# Altium integrated library Xilinx Virtex-II.IntLib: 158 symbols (part 5 of 59)
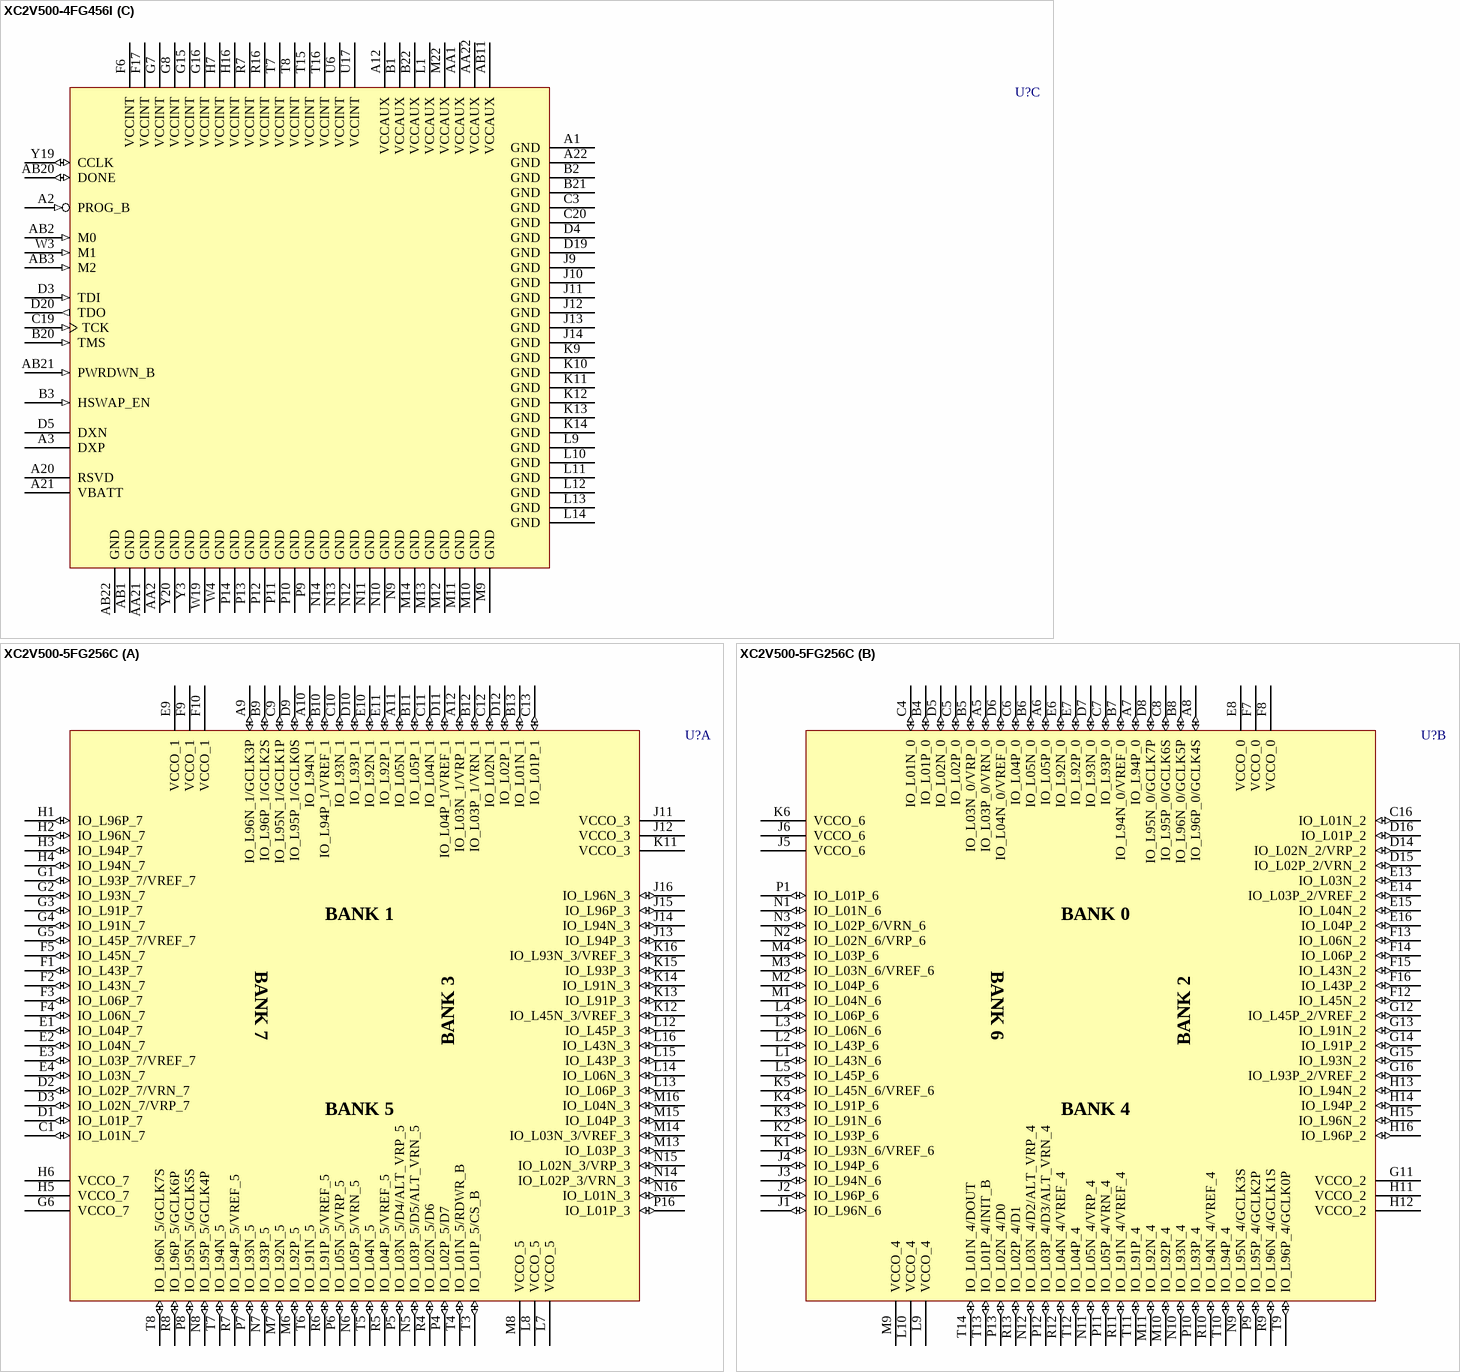
[diagram p403: symbols XC2V500-4FG456I to XC2V500-5FG256C]

## XC2V500-4FG456I
designator U?
Virtex-II 1.5V FPGA, 456-Ball FBGA, Industrial Grade; PackageDocument: ver1.1, Apr-2001; Published: 15-Apr-2002; DatasheetDocument: Mar-2004; PackageReference: FG456; Publisher: Altium Limited; Code_JEDEC: MO-151-AAJ-1
footprint FG456 (456-Ball Fine Pitch Ball Grid Array (FG456))
3D model XC2V500-FG456 (456-Ball Fine Pitch Ball Grid Array (FG456))
signal-integrity model XC2V500_FG456 (Virtex-II)
part A pins: A13 IO_L93N_1 (io), A14 IO_L54N_1 (io), A15 IO_L51N_1/VREF_1 (io), A16 NC, A17 IO_L05N_1 (io), A18 IO_L03N_1/VRP_1 (io), A19 IO_L01N_1 (io), AA3 IO_L01P_5/CS_B (io), AA4 IO_L02P_5/D7 (io), AA5 IO_L04P_5/VREF_5 (io), AA6 NC, AA7 NC, AA8 IO_L51P_5 (io), AA9 IO_L54P_5 (io), AA10 IO_L93P_5 (io), AA11 IO_L96N_5/GCLK7S (io), AA20 IO_L01P_3 (io), AB4 IO_L02N_5/D6 (io), AB5 IO_L04N_5 (io), AB6 NC, AB7 NC, AB8 IO_L51N_5/VREF_5 (io), AB9 IO_L54N_5 (io), AB10 IO_L93N_5 (io), B12 IO_L94P_1/VREF_1 (io), B13 IO_L93P_1 (io), B14 IO_L54P_1 (io), B15 IO_L51P_1 (io), B16 NC, B17 IO_L05P_1 (io), B18 IO_L03P_1/VRN_1 (io), B19 IO_L01P_1 (io), C1 IO_L02P_7/VRN_7 (io), C2 IO_L02N_7/VRP_7 (io), C12 IO_L94N_1 (io), C13 IO_L92N_1 (io), C14 IO_L52N_1 (io), C15 IO_L49N_1 (io), C16 NC, C17 IO_L04N_1 (io), C18 IO_L02N_1 (io), D1 IO_L03P_7/VREF_7 (io), D2 IO_L03N_7 (io), D12 IO_L95P_1/GCLK0S (io), D13 IO_L92P_1 (io), D14 IO_L52P_1 (io), D15 IO_L49P_1 (io), D16 NC, D17 IO_L04P_1/VREF_1 (io), D18 IO_L02P_1 (io), E1 IO_L06P_7 (io), E2 IO_L06N_7 (io), E3 IO_L04P_7 (io), E4 IO_L04N_7 (io), E5 IO_L01P_7 (io), E6 IO_L01N_7 (io), E12 IO_L95N_1/GCLK1P (io), E13 IO_L91N_1 (io), E14 IO_L91P_1/VREF_1 (io), E15 NC, E16 IO_L06N_1 (io), E17 IO_L06P_1 (io), F1 NC, F2 NC, F3 NC, F4 NC, F5 NC, F12 IO_L96N_1/GCLK3P (io), F13 IO_L96P_1/GCLK2S (io), F14 NC, F15 VCCO_1 (power), F16 VCCO_1 (power), G1 IO_L43P_7 (io), G2 IO_L43N_7 (io), G3 NC, G4 NC, G5 NC, G6 VCCO_7 (power), G12 VCCO_1 (power), G13 VCCO_1 (power), G14 VCCO_1 (power), H1 IO_L48P_7 (io), H2 IO_L48N_7 (io), H3 IO_L46P_7 (io), H4 IO_L46N_7 (io), H5 IO_L45N_7 (io), H6 VCCO_7 (power), J1 IO_L51P_7/VREF_7 (io), J2 IO_L51N_7 (io), J3 IO_L49P_7 (io), J4 IO_L49N_7 (io), J5 IO_L52N_7 (io), J6 IO_L45P_7/VREF_7 (io), J7 VCCO_7 (power), K1 IO_L93P_7/VREF_7 (io), K2 IO_L93N_7 (io), K3 IO_L91P_7 (io), K4 IO_L91N_7 (io), K5 IO_L52P_7 (io), K6 IO_L54N_7 (io), K7 VCCO_7 (power), L2 IO_L96P_7 (io), L3 IO_L96N_7 (io), L4 IO_L94P_7 (io), L5 IO_L94N_7 (io), L6 IO_L54P_7 (io), L7 VCCO_7 (power), M16 VCCO_3 (power), M17 IO_L93N_3/VREF_3 (io), M18 IO_L94P_3 (io), M19 IO_L94N_3 (io), M20 IO_L96P_3 (io), M21 IO_L96N_3 (io), N16 VCCO_3 (power), N17 IO_L93P_3 (io), N18 IO_L52N_3 (io), N19 IO_L54P_3 (io), N20 IO_L54N_3 (io), N21 IO_L91P_3 (io), N22 IO_L91N_3 (io), P16 VCCO_3 (power), P17 IO_L45P_3 (io), P18 IO_L52P_3 (io), P19 IO_L49P_3 (io), P20 IO_L49N_3 (io), P21 IO_L51P_3 (io), P22 IO_L51N_3/VREF_3 (io), R17 VCCO_3 (power), R18 IO_L45N_3/VREF_3 (io), R19 IO_L46P_3 (io), R20 IO_L46N_3 (io), R21 IO_L48P_3 (io), R22 IO_L48N_3 (io), T9 VCCO_5 (power), T10 VCCO_5 (power), T11 VCCO_5 (power), T17 VCCO_3 (power), T18 NC, T19 NC, T20 NC, T21 IO_L43P_3 (io), T22 IO_L43N_3 (io), U7 VCCO_5 (power), U8 VCCO_5 (power), U9 NC, U10 IO_L94P_5/VREF_5 (io), U11 IO_L94N_5 (io), U18 NC, U19 NC, U20 NC, U21 NC, U22 NC, V6 IO_L05P_5/VRN_5 (io), V7 IO_L05N_5/VRP_5 (io), V8 NC, V9 IO_L91P_5/VREF_5 (io), V10 IO_L91N_5 (io), V11 IO_L95P_5/GCLK4P (io), V19 IO_L04P_3 (io), V20 IO_L04N_3 (io), V21 IO_L06P_3 (io), V22 IO_L06N_3 (io), W5 IO_L03P_5/D5/ALT_VRN_5 (io), W6 IO_L06P_5 (io), W7 NC, W8 IO_L49P_5 (io), W9 IO_L52P_5 (io), W10 IO_L92P_5 (io), W11 IO_L95N_5/GCLK5S (io), W20 IO_L01N_3 (io), W21 IO_L03P_3 (io), W22 IO_L03N_3/VREF_3 (io), Y4 IO_L01N_5/RDWR_B (io), Y5 IO_L03N_5/D4/ALT_VRP_5 (io), Y6 IO_L06N_5 (io), Y7 NC, Y8 IO_L49N_5 (io), Y9 IO_L52N_5 (io), Y10 IO_L92N_5 (io), Y11 IO_L96P_5/GCLK6P (io), Y21 IO_L02P_3/VRN_3 (io), Y22 IO_L02N_3/VRP_3 (io)
part B pins: A4 IO_L01P_0 (io), A5 IO_L03P_0/VRN_0 (io), A6 IO_L05P_0 (io), A7 NC, A8 IO_L49P_0 (io), A9 IO_L54P_0 (io), A10 IO_L93P_0 (io), A11 IO_L96P_0/GCLK4S (io), AA12 IO_L96N_4/GCLK1S (io), AA13 IO_L93N_4 (io), AA14 IO_L54N_4 (io), AA15 IO_L49N_4 (io), AA16 NC, AA17 IO_L06N_4 (io), AA18 IO_L04N_4/VREF_4 (io), AA19 IO_L01P_4/INIT_B (io), AB12 IO_L96P_4/GCLK0P (io), AB13 IO_L93P_4 (io), AB14 IO_L54P_4 (io), AB15 IO_L49P_4 (io), AB16 NC, AB17 IO_L06P_4 (io), AB18 IO_L04P_4 (io), AB19 IO_L01N_4/DOUT (io), B4 IO_L01N_0 (io), B5 IO_L03N_0/VRP_0 (io), B6 IO_L05N_0 (io), B7 NC, B8 IO_L49N_0 (io), B9 IO_L54N_0 (io), B10 IO_L93N_0 (io), B11 IO_L96N_0/GCLK5P (io), C4 IO_L02N_0 (io), C5 IO_L02P_0 (io), C6 IO_L04P_0 (io), C7 NC, C8 NC, C9 IO_L52P_0 (io), C10 IO_L92P_0 (io), C11 IO_L95P_0/GCLK6S (io), C21 IO_L01N_2 (io), C22 IO_L01P_2 (io), D6 IO_L04N_0/VREF_0 (io), D7 NC, D8 NC, D9 IO_L52N_0 (io), D10 IO_L92N_0 (io), D11 IO_L95N_0/GCLK7P (io), D21 IO_L03N_2 (io), D22 IO_L03P_2/VREF_2 (io), E7 IO_L06N_0 (io), E8 IO_L06P_0 (io), E9 IO_L51N_0 (io), E10 IO_L91N_0/VREF_0 (io), E11 IO_L94N_0/VREF_0 (io), E18 IO_L02N_2/VRP_2 (io), E19 IO_L04N_2 (io), E20 IO_L04P_2 (io), E21 IO_L06N_2 (io), E22 IO_L06P_2 (io), F7 VCCO_0 (power), F8 VCCO_0 (power), F9 IO_L51P_0/VREF_0 (io), F10 IO_L91P_0 (io), F11 IO_L94P_0 (io), F18 IO_L02P_2/VRN_2 (io), F19 NC, F20 NC, F21 NC, F22 NC, G9 VCCO_0 (power), G10 VCCO_0 (power), G11 VCCO_0 (power), G17 VCCO_2 (power), G18 NC, G19 NC, G20 NC, G21 IO_L43N_2 (io), G22 IO_L43P_2 (io), H17 VCCO_2 (power), H18 NC, H19 IO_L45N_2 (io), H20 IO_L45P_2/VREF_2 (io), H21 IO_L46N_2 (io), H22 IO_L46P_2 (io), J16 VCCO_2 (power), J17 IO_L48N_2 (io), J18 IO_L48P_2 (io), J19 IO_L49N_2 (io), J20 IO_L49P_2 (io), J21 IO_L51N_2 (io), J22 IO_L51P_2/VREF_2 (io), K16 VCCO_2 (power), K17 IO_L52N_2 (io), K18 IO_L52P_2 (io), K19 IO_L54N_2 (io), K20 IO_L54P_2 (io), K21 IO_L91N_2 (io), K22 IO_L91P_2 (io), L16 VCCO_2 (power), L17 IO_L93N_2 (io), L18 IO_L93P_2/VREF_2 (io), L19 IO_L94N_2 (io), L20 IO_L94P_2 (io), L21 IO_L96N_2 (io), L22 IO_L96P_2 (io), M1 IO_L96N_6 (io), M2 IO_L96P_6 (io), M3 IO_L94N_6 (io), M4 IO_L94P_6 (io), M5 IO_L93N_6/VREF_6 (io), M6 IO_L93P_6 (io), M7 VCCO_6 (power), N1 IO_L91N_6 (io), N2 IO_L91P_6 (io), N3 IO_L54N_6 (io), N4 IO_L54P_6 (io), N5 IO_L52N_6 (io), N6 IO_L52P_6 (io), N7 VCCO_6 (power), P1 IO_L51N_6/VREF_6 (io), P2 IO_L51P_6 (io), P3 IO_L49N_6 (io), P4 IO_L49P_6 (io), P5 IO_L48N_6 (io), P6 IO_L48P_6 (io), P7 VCCO_6 (power), R1 IO_L46N_6 (io), R2 IO_L46P_6 (io), R3 IO_L45N_6/VREF_6 (io), R4 IO_L45P_6 (io), R5 NC, R6 VCCO_6 (power), T1 IO_L43N_6 (io), T2 IO_L43P_6 (io), T3 NC, T4 NC, T5 NC, T6 VCCO_6 (power), T12 VCCO_4 (power), T13 VCCO_4 (power), T14 VCCO_4 (power), U1 NC, U2 NC, U3 IO_L06N_6 (io), U4 IO_L06P_6 (io), U5 IO_L01N_6 (io), U12 IO_L94N_4/VREF_4 (io), U13 IO_L91N_4/VREF_4 (io), U14 IO_L51N_4 (io), U15 VCCO_4 (power), U16 VCCO_4 (power), V1 NC, V2 NC, V3 IO_L03N_6/VREF_6 (io), V4 IO_L03P_6 (io), V5 IO_L01P_6 (io), V12 IO_L94P_4 (io), V13 IO_L91P_4 (io), V14 IO_L51P_4/VREF_4 (io), V15 NC, V16 NC, V17 IO_L02P_4/D1 (io), V18 IO_L02N_4/D0 (io), W1 IO_L04N_6 (io), W2 IO_L04P_6 (io), W12 IO_L95N_4/GCLK3S (io), W13 IO_L92N_4 (io), W14 IO_L52N_4 (io), W15 NC, W16 NC, W17 IO_L05N_4/VRP_4 (io), W18 IO_L03N_4/D2/ALT_VRP_4 (io), Y1 IO_L02N_6/VRP_6 (io), Y2 IO_L02P_6/VRN_6 (io), Y12 IO_L95P_4/GCLK2P (io), Y13 IO_L92P_4 (io), Y14 IO_L52P_4 (io), Y15 NC, Y16 NC, Y17 IO_L05P_4/VRN_4 (io), Y18 IO_L03P_4/D3/ALT_VRN_4 (io)
part C pins: A1 GND (power), A2 PROG_B (in), A3 DXP, A12 VCCAUX (power), A20 RSVD, A21 VBATT (power), A22 GND (power), AA1 VCCAUX (power), AA2 GND (power), AA21 GND (power), AA22 VCCAUX (power), AB1 GND (power), AB2 M0 (in), AB3 M2 (in), AB11 VCCAUX (power), AB20 DONE (io), AB21 PWRDWN_B (in), AB22 GND (power), B1 VCCAUX (power), B2 GND (power), B3 HSWAP_EN (in), B20 TMS (in), B21 GND (power), B22 VCCAUX (power), C3 GND (power), C19 TCK (in), C20 GND (power), D3 TDI (in), D4 GND (power), D5 DXN, D19 GND (power), D20 TDO (out), F6 VCCINT (power), F17 VCCINT (power), G7 VCCINT (power), G8 VCCINT (power), G15 VCCINT (power), G16 VCCINT (power), H7 VCCINT (power), H16 VCCINT (power), J9 GND (power), J10 GND (power), J11 GND (power), J12 GND (power), J13 GND (power), J14 GND (power), K9 GND (power), K10 GND (power), K11 GND (power), K12 GND (power), K13 GND (power), K14 GND (power), L1 VCCAUX (power), L9 GND (power), L10 GND (power), L11 GND (power), L12 GND (power), L13 GND (power), L14 GND (power), M9 GND (power), M10 GND (power), M11 GND (power), M12 GND (power), M13 GND (power), M14 GND (power), M22 VCCAUX (power), N9 GND (power), N10 GND (power), N11 GND (power), N12 GND (power), N13 GND (power), N14 GND (power), P9 GND (power), P10 GND (power), P11 GND (power), P12 GND (power), P13 GND (power), P14 GND (power), R7 VCCINT (power), R16 VCCINT (power), T7 VCCINT (power), T8 VCCINT (power), T15 VCCINT (power), T16 VCCINT (power), U6 VCCINT (power), U17 VCCINT (power), W3 M1 (in), W4 GND (power), W19 GND (power), Y3 GND (power), Y19 CCLK (io), Y20 GND (power)
part A text: BANK 1; BANK 7; BANK 3; BANK 5
part B text: BANK 0; BANK 6; BANK 2; BANK 4

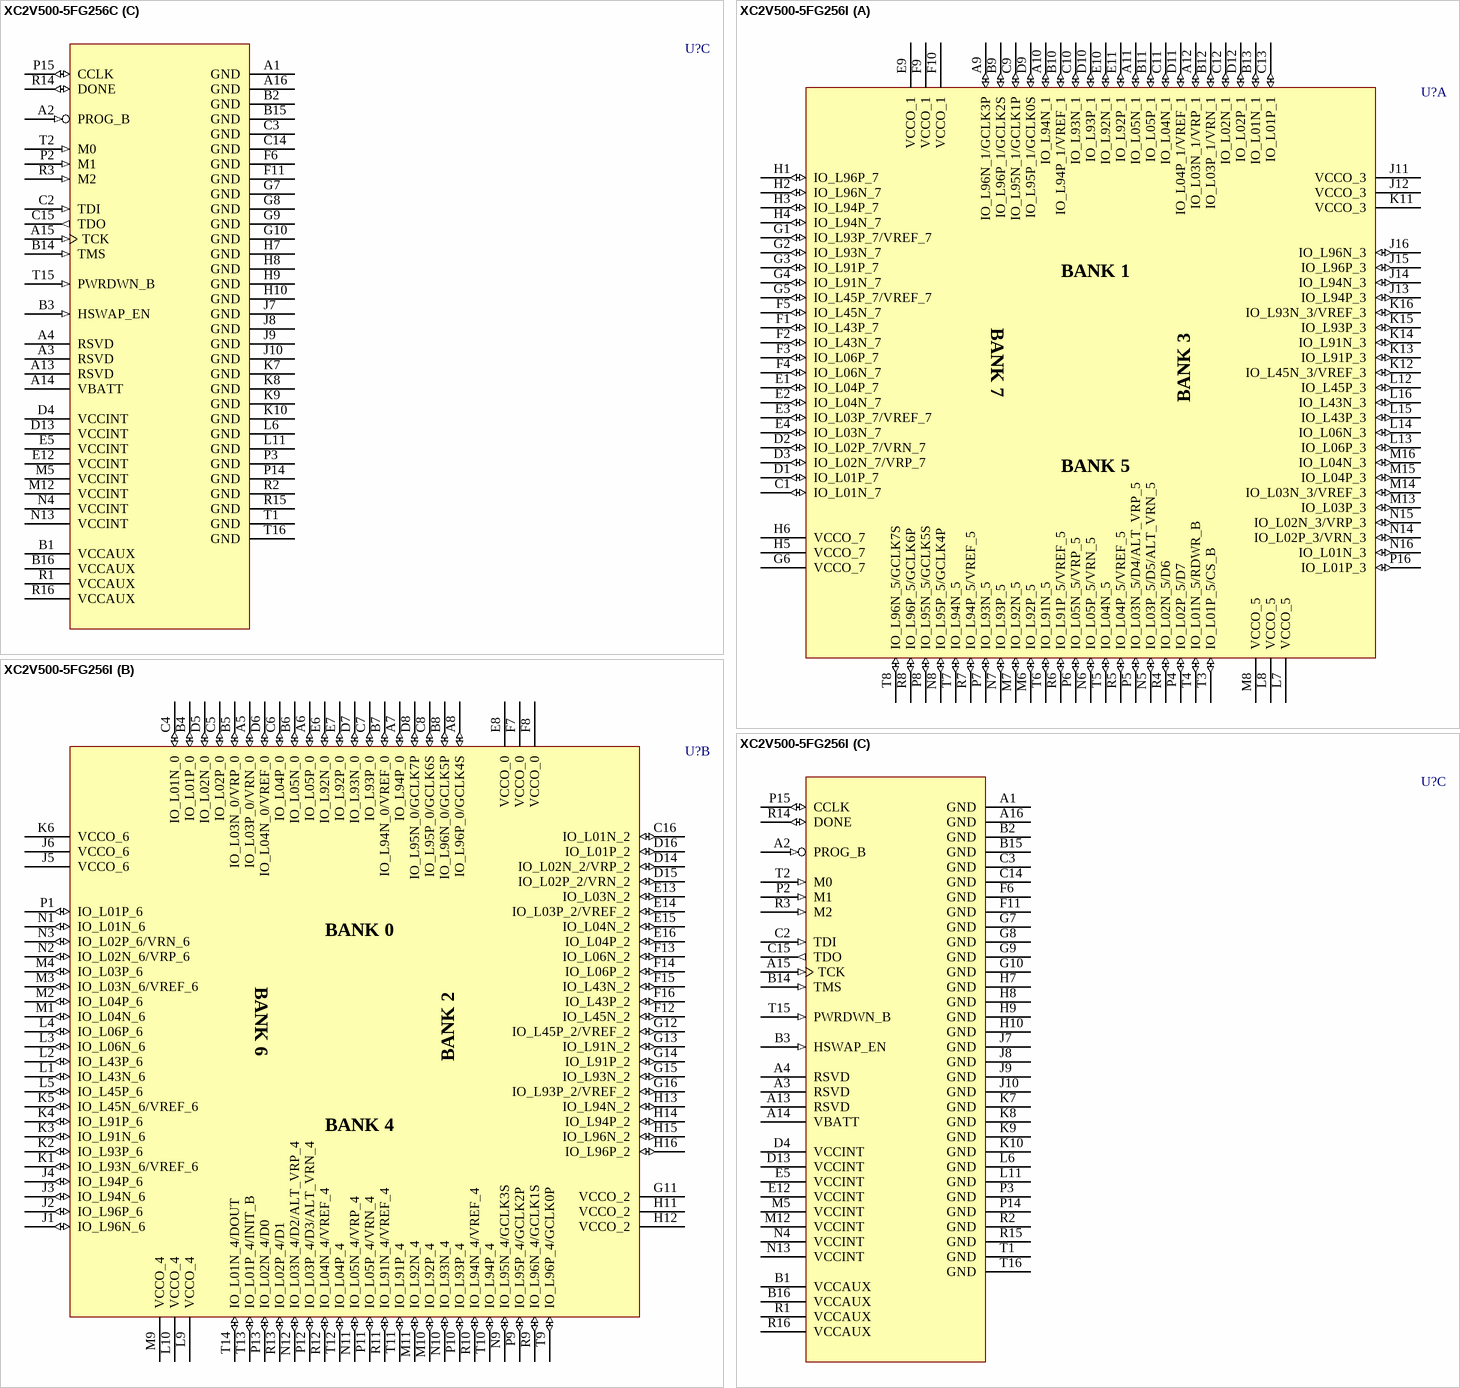
[diagram p41: symbols XC2V500-5FG256C to XC2V500-5FG256I]

## XC2V500-5FG256C
designator U?
Virtex-II 1.5V FPGA, 256-Ball FBGA, Commercial Grade; PackageDocument: ver1.1, Apr-2001; Published: 15-Apr-2002; DatasheetDocument: Mar-2004; PackageReference: FG256; Publisher: Altium Limited; Code_JEDEC: MO-151-AAF-1; Code_IPC: PBGA 17X17 FE256
footprint FG256 (256-Ball Fine Pitch Ball Grid Array (FG256))
3D model XC2V500-FG256 (256-Ball Fine Pitch Ball Grid Array (FG256))
signal-integrity model XC2V500_FG256 (Virtex-II)
part A pins: A9 IO_L96N_1/GCLK3P (io), A10 IO_L94N_1 (io), A11 IO_L05N_1 (io), A12 IO_L03N_1/VRP_1 (io), B9 IO_L96P_1/GCLK2S (io), B10 IO_L94P_1/VREF_1 (io), B11 IO_L05P_1 (io), B12 IO_L03P_1/VRN_1 (io), B13 IO_L01N_1 (io), C1 IO_L01N_7 (io), C9 IO_L95N_1/GCLK1P (io), C10 IO_L93N_1 (io), C11 IO_L04N_1 (io), C12 IO_L02N_1 (io), C13 IO_L01P_1 (io), D1 IO_L01P_7 (io), D2 IO_L02P_7/VRN_7 (io), D3 IO_L02N_7/VRP_7 (io), D9 IO_L95P_1/GCLK0S (io), D10 IO_L93P_1 (io), D11 IO_L04P_1/VREF_1 (io), D12 IO_L02P_1 (io), E1 IO_L04P_7 (io), E2 IO_L04N_7 (io), E3 IO_L03P_7/VREF_7 (io), E4 IO_L03N_7 (io), E9 VCCO_1 (power), E10 IO_L92N_1 (io), E11 IO_L92P_1 (io), F1 IO_L43P_7 (io), F2 IO_L43N_7 (io), F3 IO_L06P_7 (io), F4 IO_L06N_7 (io), F5 IO_L45N_7 (io), F9 VCCO_1 (power), F10 VCCO_1 (power), G1 IO_L93P_7/VREF_7 (io), G2 IO_L93N_7 (io), G3 IO_L91P_7 (io), G4 IO_L91N_7 (io), G5 IO_L45P_7/VREF_7 (io), G6 VCCO_7 (power), H1 IO_L96P_7 (io), H2 IO_L96N_7 (io), H3 IO_L94P_7 (io), H4 IO_L94N_7 (io), H5 VCCO_7 (power), H6 VCCO_7 (power), J11 VCCO_3 (power), J12 VCCO_3 (power), J13 IO_L94P_3 (io), J14 IO_L94N_3 (io), J15 IO_L96P_3 (io), J16 IO_L96N_3 (io), K11 VCCO_3 (power), K12 IO_L45N_3/VREF_3 (io), K13 IO_L91P_3 (io), K14 IO_L91N_3 (io), K15 IO_L93P_3 (io), K16 IO_L93N_3/VREF_3 (io), L7 VCCO_5 (power), L8 VCCO_5 (power), L12 IO_L45P_3 (io), L13 IO_L06P_3 (io), L14 IO_L06N_3 (io), L15 IO_L43P_3 (io), L16 IO_L43N_3 (io), M6 IO_L92P_5 (io), M7 IO_L92N_5 (io), M8 VCCO_5 (power), M13 IO_L03P_3 (io), M14 IO_L03N_3/VREF_3 (io), M15 IO_L04P_3 (io), M16 IO_L04N_3 (io), N5 IO_L03P_5/D5/ALT_VRN_5 (io), N6 IO_L05P_5/VRN_5 (io), N7 IO_L93P_5 (io), N8 IO_L95P_5/GCLK4P (io), N14 IO_L02P_3/VRN_3 (io), N15 IO_L02N_3/VRP_3 (io), N16 IO_L01N_3 (io), P4 IO_L02P_5/D7 (io), P5 IO_L03N_5/D4/ALT_VRP_5 (io), P6 IO_L05N_5/VRP_5 (io), P7 IO_L93N_5 (io), P8 IO_L95N_5/GCLK5S (io), P16 IO_L01P_3 (io), R4 IO_L02N_5/D6 (io), R5 IO_L04P_5/VREF_5 (io), R6 IO_L91P_5/VREF_5 (io), R7 IO_L94P_5/VREF_5 (io), R8 IO_L96P_5/GCLK6P (io), T3 IO_L01P_5/CS_B (io), T4 IO_L01N_5/RDWR_B (io), T5 IO_L04N_5 (io), T6 IO_L91N_5 (io), T7 IO_L94N_5 (io), T8 IO_L96N_5/GCLK7S (io)
part B pins: A5 IO_L03P_0/VRN_0 (io), A6 IO_L05P_0 (io), A7 IO_L94P_0 (io), A8 IO_L96P_0/GCLK4S (io), B4 IO_L01P_0 (io), B5 IO_L03N_0/VRP_0 (io), B6 IO_L05N_0 (io), B7 IO_L94N_0/VREF_0 (io), B8 IO_L96N_0/GCLK5P (io), C4 IO_L01N_0 (io), C5 IO_L02P_0 (io), C6 IO_L04P_0 (io), C7 IO_L93P_0 (io), C8 IO_L95P_0/GCLK6S (io), C16 IO_L01N_2 (io), D5 IO_L02N_0 (io), D6 IO_L04N_0/VREF_0 (io), D7 IO_L93N_0 (io), D8 IO_L95N_0/GCLK7P (io), D14 IO_L02N_2/VRP_2 (io), D15 IO_L02P_2/VRN_2 (io), D16 IO_L01P_2 (io), E6 IO_L92N_0 (io), E7 IO_L92P_0 (io), E8 VCCO_0 (power), E13 IO_L03N_2 (io), E14 IO_L03P_2/VREF_2 (io), E15 IO_L04N_2 (io), E16 IO_L04P_2 (io), F7 VCCO_0 (power), F8 VCCO_0 (power), F12 IO_L45N_2 (io), F13 IO_L06N_2 (io), F14 IO_L06P_2 (io), F15 IO_L43N_2 (io), F16 IO_L43P_2 (io), G11 VCCO_2 (power), G12 IO_L45P_2/VREF_2 (io), G13 IO_L91N_2 (io), G14 IO_L91P_2 (io), G15 IO_L93N_2 (io), G16 IO_L93P_2/VREF_2 (io), H11 VCCO_2 (power), H12 VCCO_2 (power), H13 IO_L94N_2 (io), H14 IO_L94P_2 (io), H15 IO_L96N_2 (io), H16 IO_L96P_2 (io), J1 IO_L96N_6 (io), J2 IO_L96P_6 (io), J3 IO_L94N_6 (io), J4 IO_L94P_6 (io), J5 VCCO_6 (power), J6 VCCO_6 (power), K1 IO_L93N_6/VREF_6 (io), K2 IO_L93P_6 (io), K3 IO_L91N_6 (io), K4 IO_L91P_6 (io), K5 IO_L45N_6/VREF_6 (io), K6 VCCO_6 (power), L1 IO_L43N_6 (io), L2 IO_L43P_6 (io), L3 IO_L06N_6 (io), L4 IO_L06P_6 (io), L5 IO_L45P_6 (io), L9 VCCO_4 (power), L10 VCCO_4 (power), M1 IO_L04N_6 (io), M2 IO_L04P_6 (io), M3 IO_L03N_6/VREF_6 (io), M4 IO_L03P_6 (io), M9 VCCO_4 (power), M10 IO_L92P_4 (io), M11 IO_L92N_4 (io), N1 IO_L01N_6 (io), N2 IO_L02N_6/VRP_6 (io), N3 IO_L02P_6/VRN_6 (io), N9 IO_L95N_4/GCLK3S (io), N10 IO_L93N_4 (io), N11 IO_L05N_4/VRP_4 (io), N12 IO_L03N_4/D2/ALT_VRP_4 (io), P1 IO_L01P_6 (io), P9 IO_L95P_4/GCLK2P (io), P10 IO_L93P_4 (io), P11 IO_L05P_4/VRN_4 (io), P12 IO_L03P_4/D3/ALT_VRN_4 (io), P13 IO_L02N_4/D0 (io), R9 IO_L96N_4/GCLK1S (io), R10 IO_L94N_4/VREF_4 (io), R11 IO_L91N_4/VREF_4 (io), R12 IO_L04N_4/VREF_4 (io), R13 IO_L02P_4/D1 (io), T9 IO_L96P_4/GCLK0P (io), T10 IO_L94P_4 (io), T11 IO_L91P_4 (io), T12 IO_L04P_4 (io), T13 IO_L01P_4/INIT_B (io), T14 IO_L01N_4/DOUT (io)
part C pins: A1 GND (power), A2 PROG_B (in), A3 RSVD, A4 RSVD, A13 RSVD, A14 VBATT (power), A15 TCK (in), A16 GND (power), B1 VCCAUX (power), B2 GND (power), B3 HSWAP_EN (in), B14 TMS (in), B15 GND (power), B16 VCCAUX (power), C2 TDI (in), C3 GND (power), C14 GND (power), C15 TDO (out), D4 VCCINT (power), D13 VCCINT (power), E5 VCCINT (power), E12 VCCINT (power), F6 GND (power), F11 GND (power), G7 GND (power), G8 GND (power), G9 GND (power), G10 GND (power), H7 GND (power), H8 GND (power), H9 GND (power), H10 GND (power), J7 GND (power), J8 GND (power), J9 GND (power), J10 GND (power), K7 GND (power), K8 GND (power), K9 GND (power), K10 GND (power), L6 GND (power), L11 GND (power), M5 VCCINT (power), M12 VCCINT (power), N4 VCCINT (power), N13 VCCINT (power), P2 M1 (in), P3 GND (power), P14 GND (power), P15 CCLK (io), R1 VCCAUX (power), R2 GND (power), R3 M2 (in), R14 DONE (io), R15 GND (power), R16 VCCAUX (power), T1 GND (power), T2 M0 (in), T15 PWRDWN_B (in), T16 GND (power)
part A text: BANK 1; BANK 7; BANK 3; BANK 5
part B text: BANK 0; BANK 6; BANK 2; BANK 4

## XC2V500-5FG256I
designator U?
Virtex-II 1.5V FPGA, 256-Ball FBGA, Industrial Grade; PackageDocument: ver1.1, Apr-2001; Published: 15-Apr-2002; DatasheetDocument: Mar-2004; PackageReference: FG256; Publisher: Altium Limited; Code_JEDEC: MO-151-AAF-1; Code_IPC: PBGA 17X17 FE256
footprint FG256 (256-Ball Fine Pitch Ball Grid Array (FG256))
3D model XC2V500-FG256 (256-Ball Fine Pitch Ball Grid Array (FG256))
signal-integrity model XC2V500_FG256 (Virtex-II)
part A pins: A9 IO_L96N_1/GCLK3P (io), A10 IO_L94N_1 (io), A11 IO_L05N_1 (io), A12 IO_L03N_1/VRP_1 (io), B9 IO_L96P_1/GCLK2S (io), B10 IO_L94P_1/VREF_1 (io), B11 IO_L05P_1 (io), B12 IO_L03P_1/VRN_1 (io), B13 IO_L01N_1 (io), C1 IO_L01N_7 (io), C9 IO_L95N_1/GCLK1P (io), C10 IO_L93N_1 (io), C11 IO_L04N_1 (io), C12 IO_L02N_1 (io), C13 IO_L01P_1 (io), D1 IO_L01P_7 (io), D2 IO_L02P_7/VRN_7 (io), D3 IO_L02N_7/VRP_7 (io), D9 IO_L95P_1/GCLK0S (io), D10 IO_L93P_1 (io), D11 IO_L04P_1/VREF_1 (io), D12 IO_L02P_1 (io), E1 IO_L04P_7 (io), E2 IO_L04N_7 (io), E3 IO_L03P_7/VREF_7 (io), E4 IO_L03N_7 (io), E9 VCCO_1 (power), E10 IO_L92N_1 (io), E11 IO_L92P_1 (io), F1 IO_L43P_7 (io), F2 IO_L43N_7 (io), F3 IO_L06P_7 (io), F4 IO_L06N_7 (io), F5 IO_L45N_7 (io), F9 VCCO_1 (power), F10 VCCO_1 (power), G1 IO_L93P_7/VREF_7 (io), G2 IO_L93N_7 (io), G3 IO_L91P_7 (io), G4 IO_L91N_7 (io), G5 IO_L45P_7/VREF_7 (io), G6 VCCO_7 (power), H1 IO_L96P_7 (io), H2 IO_L96N_7 (io), H3 IO_L94P_7 (io), H4 IO_L94N_7 (io), H5 VCCO_7 (power), H6 VCCO_7 (power), J11 VCCO_3 (power), J12 VCCO_3 (power), J13 IO_L94P_3 (io), J14 IO_L94N_3 (io), J15 IO_L96P_3 (io), J16 IO_L96N_3 (io), K11 VCCO_3 (power), K12 IO_L45N_3/VREF_3 (io), K13 IO_L91P_3 (io), K14 IO_L91N_3 (io), K15 IO_L93P_3 (io), K16 IO_L93N_3/VREF_3 (io), L7 VCCO_5 (power), L8 VCCO_5 (power), L12 IO_L45P_3 (io), L13 IO_L06P_3 (io), L14 IO_L06N_3 (io), L15 IO_L43P_3 (io), L16 IO_L43N_3 (io), M6 IO_L92P_5 (io), M7 IO_L92N_5 (io), M8 VCCO_5 (power), M13 IO_L03P_3 (io), M14 IO_L03N_3/VREF_3 (io), M15 IO_L04P_3 (io), M16 IO_L04N_3 (io), N5 IO_L03P_5/D5/ALT_VRN_5 (io), N6 IO_L05P_5/VRN_5 (io), N7 IO_L93P_5 (io), N8 IO_L95P_5/GCLK4P (io), N14 IO_L02P_3/VRN_3 (io), N15 IO_L02N_3/VRP_3 (io), N16 IO_L01N_3 (io), P4 IO_L02P_5/D7 (io), P5 IO_L03N_5/D4/ALT_VRP_5 (io), P6 IO_L05N_5/VRP_5 (io), P7 IO_L93N_5 (io), P8 IO_L95N_5/GCLK5S (io), P16 IO_L01P_3 (io), R4 IO_L02N_5/D6 (io), R5 IO_L04P_5/VREF_5 (io), R6 IO_L91P_5/VREF_5 (io), R7 IO_L94P_5/VREF_5 (io), R8 IO_L96P_5/GCLK6P (io), T3 IO_L01P_5/CS_B (io), T4 IO_L01N_5/RDWR_B (io), T5 IO_L04N_5 (io), T6 IO_L91N_5 (io), T7 IO_L94N_5 (io), T8 IO_L96N_5/GCLK7S (io)
part B pins: A5 IO_L03P_0/VRN_0 (io), A6 IO_L05P_0 (io), A7 IO_L94P_0 (io), A8 IO_L96P_0/GCLK4S (io), B4 IO_L01P_0 (io), B5 IO_L03N_0/VRP_0 (io), B6 IO_L05N_0 (io), B7 IO_L94N_0/VREF_0 (io), B8 IO_L96N_0/GCLK5P (io), C4 IO_L01N_0 (io), C5 IO_L02P_0 (io), C6 IO_L04P_0 (io), C7 IO_L93P_0 (io), C8 IO_L95P_0/GCLK6S (io), C16 IO_L01N_2 (io), D5 IO_L02N_0 (io), D6 IO_L04N_0/VREF_0 (io), D7 IO_L93N_0 (io), D8 IO_L95N_0/GCLK7P (io), D14 IO_L02N_2/VRP_2 (io), D15 IO_L02P_2/VRN_2 (io), D16 IO_L01P_2 (io), E6 IO_L92N_0 (io), E7 IO_L92P_0 (io), E8 VCCO_0 (power), E13 IO_L03N_2 (io), E14 IO_L03P_2/VREF_2 (io), E15 IO_L04N_2 (io), E16 IO_L04P_2 (io), F7 VCCO_0 (power), F8 VCCO_0 (power), F12 IO_L45N_2 (io), F13 IO_L06N_2 (io), F14 IO_L06P_2 (io), F15 IO_L43N_2 (io), F16 IO_L43P_2 (io), G11 VCCO_2 (power), G12 IO_L45P_2/VREF_2 (io), G13 IO_L91N_2 (io), G14 IO_L91P_2 (io), G15 IO_L93N_2 (io), G16 IO_L93P_2/VREF_2 (io), H11 VCCO_2 (power), H12 VCCO_2 (power), H13 IO_L94N_2 (io), H14 IO_L94P_2 (io), H15 IO_L96N_2 (io), H16 IO_L96P_2 (io), J1 IO_L96N_6 (io), J2 IO_L96P_6 (io), J3 IO_L94N_6 (io), J4 IO_L94P_6 (io), J5 VCCO_6 (power), J6 VCCO_6 (power), K1 IO_L93N_6/VREF_6 (io), K2 IO_L93P_6 (io), K3 IO_L91N_6 (io), K4 IO_L91P_6 (io), K5 IO_L45N_6/VREF_6 (io), K6 VCCO_6 (power), L1 IO_L43N_6 (io), L2 IO_L43P_6 (io), L3 IO_L06N_6 (io), L4 IO_L06P_6 (io), L5 IO_L45P_6 (io), L9 VCCO_4 (power), L10 VCCO_4 (power), M1 IO_L04N_6 (io), M2 IO_L04P_6 (io), M3 IO_L03N_6/VREF_6 (io), M4 IO_L03P_6 (io), M9 VCCO_4 (power), M10 IO_L92P_4 (io), M11 IO_L92N_4 (io), N1 IO_L01N_6 (io), N2 IO_L02N_6/VRP_6 (io), N3 IO_L02P_6/VRN_6 (io), N9 IO_L95N_4/GCLK3S (io), N10 IO_L93N_4 (io), N11 IO_L05N_4/VRP_4 (io), N12 IO_L03N_4/D2/ALT_VRP_4 (io), P1 IO_L01P_6 (io), P9 IO_L95P_4/GCLK2P (io), P10 IO_L93P_4 (io), P11 IO_L05P_4/VRN_4 (io), P12 IO_L03P_4/D3/ALT_VRN_4 (io), P13 IO_L02N_4/D0 (io), R9 IO_L96N_4/GCLK1S (io), R10 IO_L94N_4/VREF_4 (io), R11 IO_L91N_4/VREF_4 (io), R12 IO_L04N_4/VREF_4 (io), R13 IO_L02P_4/D1 (io), T9 IO_L96P_4/GCLK0P (io), T10 IO_L94P_4 (io), T11 IO_L91P_4 (io), T12 IO_L04P_4 (io), T13 IO_L01P_4/INIT_B (io), T14 IO_L01N_4/DOUT (io)
part C pins: A1 GND (power), A2 PROG_B (in), A3 RSVD, A4 RSVD, A13 RSVD, A14 VBATT (power), A15 TCK (in), A16 GND (power), B1 VCCAUX (power), B2 GND (power), B3 HSWAP_EN (in), B14 TMS (in), B15 GND (power), B16 VCCAUX (power), C2 TDI (in), C3 GND (power), C14 GND (power), C15 TDO (out), D4 VCCINT (power), D13 VCCINT (power), E5 VCCINT (power), E12 VCCINT (power), F6 GND (power), F11 GND (power), G7 GND (power), G8 GND (power), G9 GND (power), G10 GND (power), H7 GND (power), H8 GND (power), H9 GND (power), H10 GND (power), J7 GND (power), J8 GND (power), J9 GND (power), J10 GND (power), K7 GND (power), K8 GND (power), K9 GND (power), K10 GND (power), L6 GND (power), L11 GND (power), M5 VCCINT (power), M12 VCCINT (power), N4 VCCINT (power), N13 VCCINT (power), P2 M1 (in), P3 GND (power), P14 GND (power), P15 CCLK (io), R1 VCCAUX (power), R2 GND (power), R3 M2 (in), R14 DONE (io), R15 GND (power), R16 VCCAUX (power), T1 GND (power), T2 M0 (in), T15 PWRDWN_B (in), T16 GND (power)
part A text: BANK 1; BANK 7; BANK 3; BANK 5
part B text: BANK 0; BANK 6; BANK 2; BANK 4

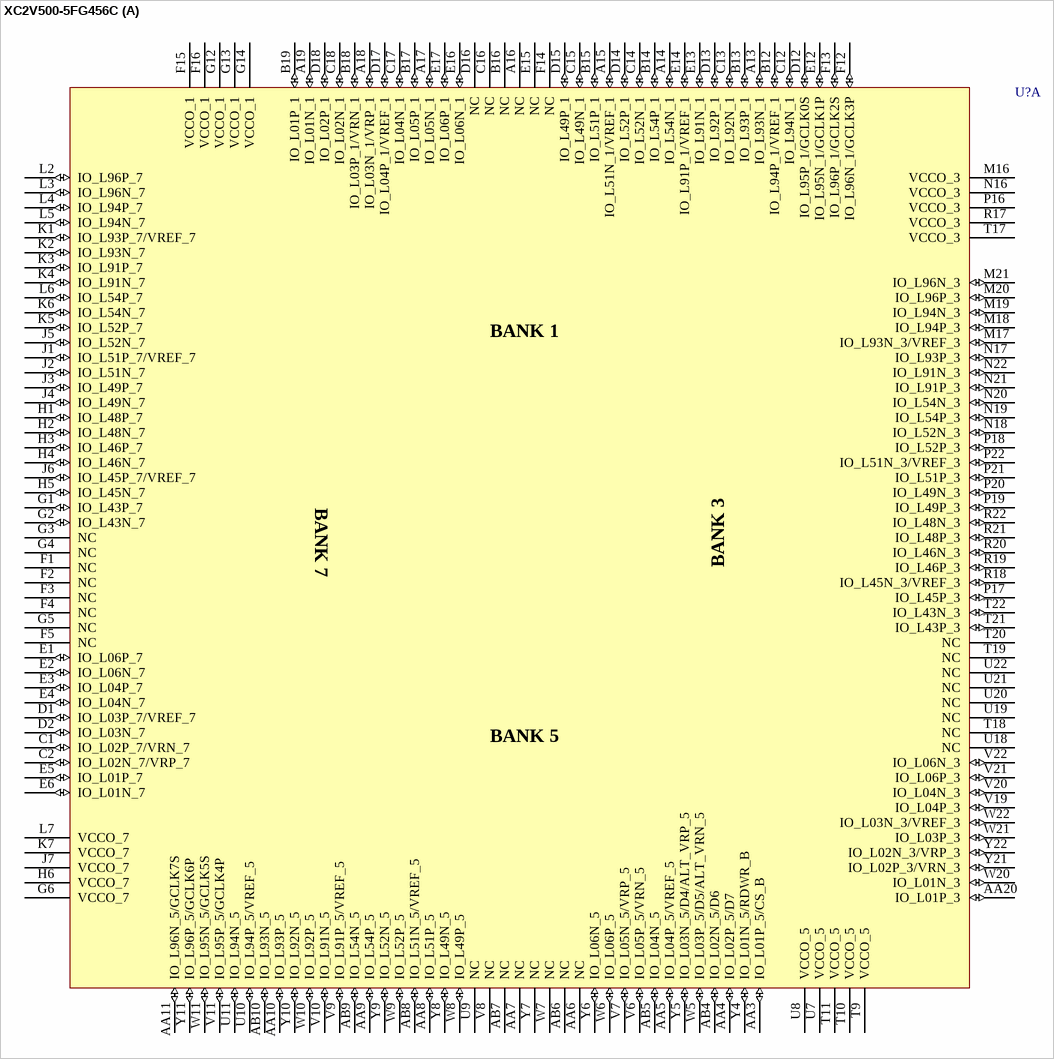
[diagram p42: symbol XC2V500-5FG456C]

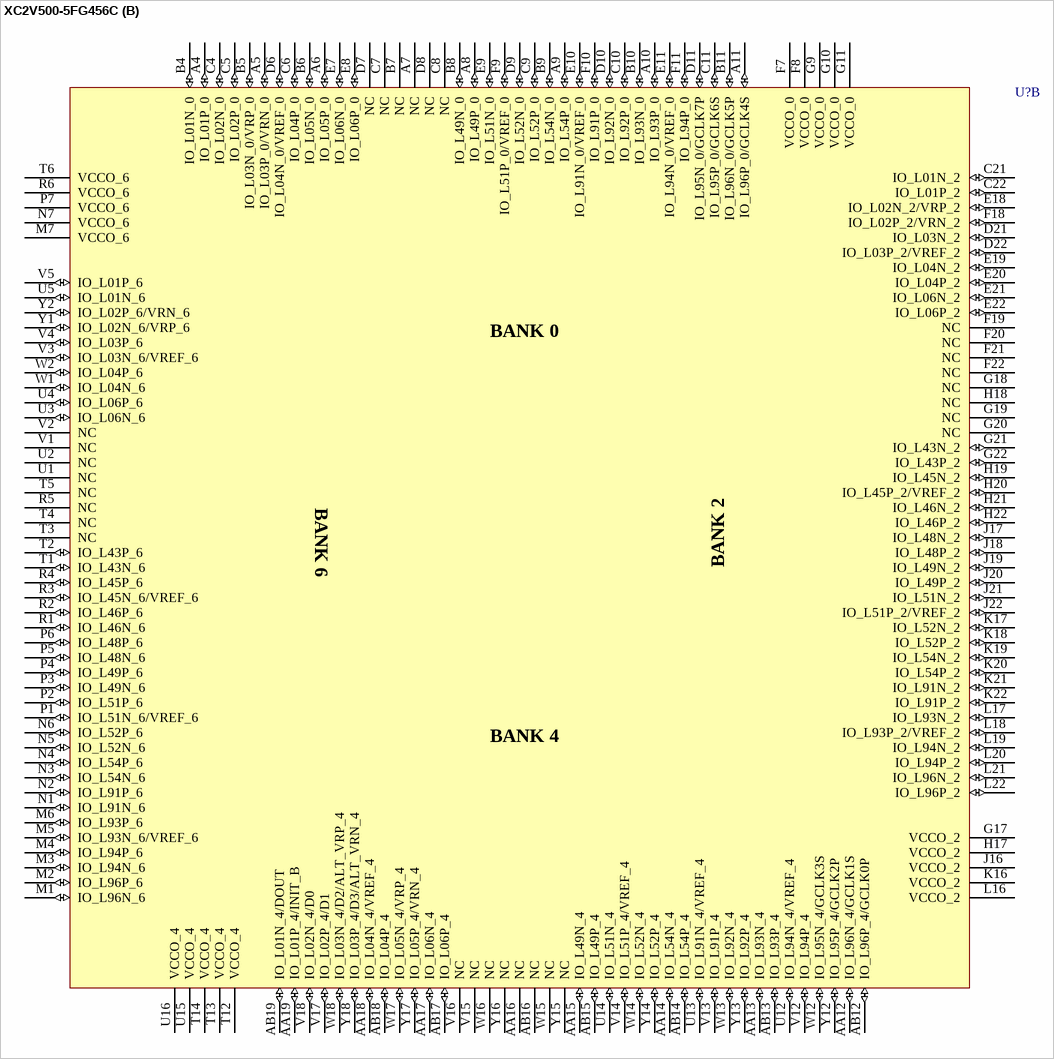
[diagram p43: symbol XC2V500-5FG456C]

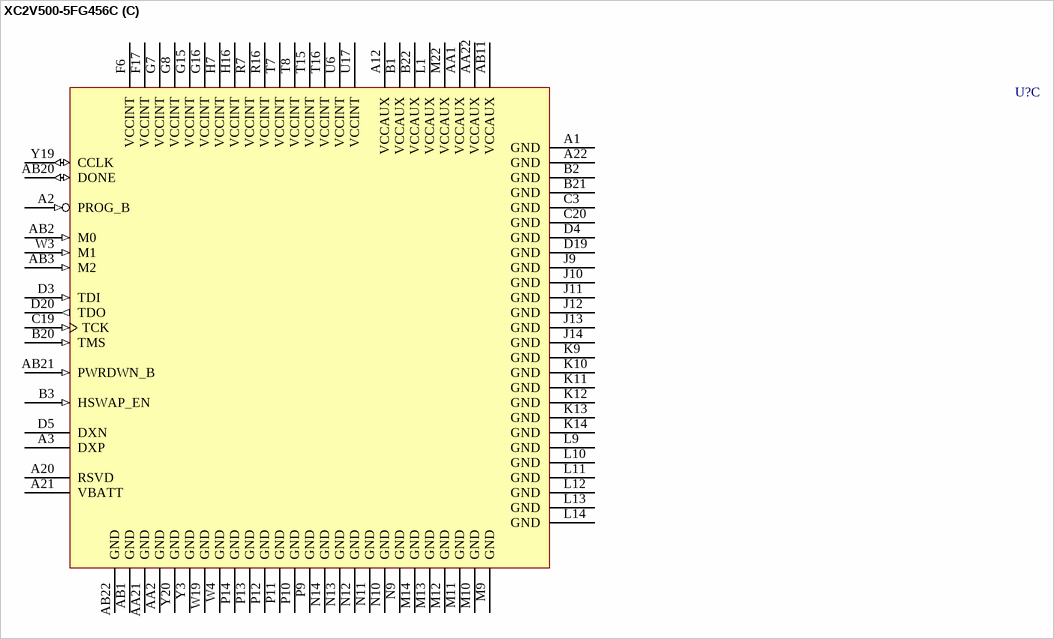
[diagram p44: symbol XC2V500-5FG456C]

## XC2V500-5FG456C
designator U?
Virtex-II 1.5V FPGA, 456-Ball FBGA, Commercial Grade; PackageDocument: ver1.1, Apr-2001; Published: 15-Apr-2002; DatasheetDocument: Mar-2004; PackageReference: FG456; Publisher: Altium Limited; Code_JEDEC: MO-151-AAJ-1
footprint FG456 (456-Ball Fine Pitch Ball Grid Array (FG456))
3D model XC2V500-FG456 (456-Ball Fine Pitch Ball Grid Array (FG456))
signal-integrity model XC2V500_FG456 (Virtex-II)
part A pins: A13 IO_L93N_1 (io), A14 IO_L54N_1 (io), A15 IO_L51N_1/VREF_1 (io), A16 NC, A17 IO_L05N_1 (io), A18 IO_L03N_1/VRP_1 (io), A19 IO_L01N_1 (io), AA3 IO_L01P_5/CS_B (io), AA4 IO_L02P_5/D7 (io), AA5 IO_L04P_5/VREF_5 (io), AA6 NC, AA7 NC, AA8 IO_L51P_5 (io), AA9 IO_L54P_5 (io), AA10 IO_L93P_5 (io), AA11 IO_L96N_5/GCLK7S (io), AA20 IO_L01P_3 (io), AB4 IO_L02N_5/D6 (io), AB5 IO_L04N_5 (io), AB6 NC, AB7 NC, AB8 IO_L51N_5/VREF_5 (io), AB9 IO_L54N_5 (io), AB10 IO_L93N_5 (io), B12 IO_L94P_1/VREF_1 (io), B13 IO_L93P_1 (io), B14 IO_L54P_1 (io), B15 IO_L51P_1 (io), B16 NC, B17 IO_L05P_1 (io), B18 IO_L03P_1/VRN_1 (io), B19 IO_L01P_1 (io), C1 IO_L02P_7/VRN_7 (io), C2 IO_L02N_7/VRP_7 (io), C12 IO_L94N_1 (io), C13 IO_L92N_1 (io), C14 IO_L52N_1 (io), C15 IO_L49N_1 (io), C16 NC, C17 IO_L04N_1 (io), C18 IO_L02N_1 (io), D1 IO_L03P_7/VREF_7 (io), D2 IO_L03N_7 (io), D12 IO_L95P_1/GCLK0S (io), D13 IO_L92P_1 (io), D14 IO_L52P_1 (io), D15 IO_L49P_1 (io), D16 NC, D17 IO_L04P_1/VREF_1 (io), D18 IO_L02P_1 (io), E1 IO_L06P_7 (io), E2 IO_L06N_7 (io), E3 IO_L04P_7 (io), E4 IO_L04N_7 (io), E5 IO_L01P_7 (io), E6 IO_L01N_7 (io), E12 IO_L95N_1/GCLK1P (io), E13 IO_L91N_1 (io), E14 IO_L91P_1/VREF_1 (io), E15 NC, E16 IO_L06N_1 (io), E17 IO_L06P_1 (io), F1 NC, F2 NC, F3 NC, F4 NC, F5 NC, F12 IO_L96N_1/GCLK3P (io), F13 IO_L96P_1/GCLK2S (io), F14 NC, F15 VCCO_1 (power), F16 VCCO_1 (power), G1 IO_L43P_7 (io), G2 IO_L43N_7 (io), G3 NC, G4 NC, G5 NC, G6 VCCO_7 (power), G12 VCCO_1 (power), G13 VCCO_1 (power), G14 VCCO_1 (power), H1 IO_L48P_7 (io), H2 IO_L48N_7 (io), H3 IO_L46P_7 (io), H4 IO_L46N_7 (io), H5 IO_L45N_7 (io), H6 VCCO_7 (power), J1 IO_L51P_7/VREF_7 (io), J2 IO_L51N_7 (io), J3 IO_L49P_7 (io), J4 IO_L49N_7 (io), J5 IO_L52N_7 (io), J6 IO_L45P_7/VREF_7 (io), J7 VCCO_7 (power), K1 IO_L93P_7/VREF_7 (io), K2 IO_L93N_7 (io), K3 IO_L91P_7 (io), K4 IO_L91N_7 (io), K5 IO_L52P_7 (io), K6 IO_L54N_7 (io), K7 VCCO_7 (power), L2 IO_L96P_7 (io), L3 IO_L96N_7 (io), L4 IO_L94P_7 (io), L5 IO_L94N_7 (io), L6 IO_L54P_7 (io), L7 VCCO_7 (power), M16 VCCO_3 (power), M17 IO_L93N_3/VREF_3 (io), M18 IO_L94P_3 (io), M19 IO_L94N_3 (io), M20 IO_L96P_3 (io), M21 IO_L96N_3 (io), N16 VCCO_3 (power), N17 IO_L93P_3 (io), N18 IO_L52N_3 (io), N19 IO_L54P_3 (io), N20 IO_L54N_3 (io), N21 IO_L91P_3 (io), N22 IO_L91N_3 (io), P16 VCCO_3 (power), P17 IO_L45P_3 (io), P18 IO_L52P_3 (io), P19 IO_L49P_3 (io), P20 IO_L49N_3 (io), P21 IO_L51P_3 (io), P22 IO_L51N_3/VREF_3 (io), R17 VCCO_3 (power), R18 IO_L45N_3/VREF_3 (io), R19 IO_L46P_3 (io), R20 IO_L46N_3 (io), R21 IO_L48P_3 (io), R22 IO_L48N_3 (io), T9 VCCO_5 (power), T10 VCCO_5 (power), T11 VCCO_5 (power), T17 VCCO_3 (power), T18 NC, T19 NC, T20 NC, T21 IO_L43P_3 (io), T22 IO_L43N_3 (io), U7 VCCO_5 (power), U8 VCCO_5 (power), U9 NC, U10 IO_L94P_5/VREF_5 (io), U11 IO_L94N_5 (io), U18 NC, U19 NC, U20 NC, U21 NC, U22 NC, V6 IO_L05P_5/VRN_5 (io), V7 IO_L05N_5/VRP_5 (io), V8 NC, V9 IO_L91P_5/VREF_5 (io), V10 IO_L91N_5 (io), V11 IO_L95P_5/GCLK4P (io), V19 IO_L04P_3 (io), V20 IO_L04N_3 (io), V21 IO_L06P_3 (io), V22 IO_L06N_3 (io), W5 IO_L03P_5/D5/ALT_VRN_5 (io), W6 IO_L06P_5 (io), W7 NC, W8 IO_L49P_5 (io), W9 IO_L52P_5 (io), W10 IO_L92P_5 (io), W11 IO_L95N_5/GCLK5S (io), W20 IO_L01N_3 (io), W21 IO_L03P_3 (io), W22 IO_L03N_3/VREF_3 (io), Y4 IO_L01N_5/RDWR_B (io), Y5 IO_L03N_5/D4/ALT_VRP_5 (io), Y6 IO_L06N_5 (io), Y7 NC, Y8 IO_L49N_5 (io), Y9 IO_L52N_5 (io), Y10 IO_L92N_5 (io), Y11 IO_L96P_5/GCLK6P (io), Y21 IO_L02P_3/VRN_3 (io), Y22 IO_L02N_3/VRP_3 (io)
part B pins: A4 IO_L01P_0 (io), A5 IO_L03P_0/VRN_0 (io), A6 IO_L05P_0 (io), A7 NC, A8 IO_L49P_0 (io), A9 IO_L54P_0 (io), A10 IO_L93P_0 (io), A11 IO_L96P_0/GCLK4S (io), AA12 IO_L96N_4/GCLK1S (io), AA13 IO_L93N_4 (io), AA14 IO_L54N_4 (io), AA15 IO_L49N_4 (io), AA16 NC, AA17 IO_L06N_4 (io), AA18 IO_L04N_4/VREF_4 (io), AA19 IO_L01P_4/INIT_B (io), AB12 IO_L96P_4/GCLK0P (io), AB13 IO_L93P_4 (io), AB14 IO_L54P_4 (io), AB15 IO_L49P_4 (io), AB16 NC, AB17 IO_L06P_4 (io), AB18 IO_L04P_4 (io), AB19 IO_L01N_4/DOUT (io), B4 IO_L01N_0 (io), B5 IO_L03N_0/VRP_0 (io), B6 IO_L05N_0 (io), B7 NC, B8 IO_L49N_0 (io), B9 IO_L54N_0 (io), B10 IO_L93N_0 (io), B11 IO_L96N_0/GCLK5P (io), C4 IO_L02N_0 (io), C5 IO_L02P_0 (io), C6 IO_L04P_0 (io), C7 NC, C8 NC, C9 IO_L52P_0 (io), C10 IO_L92P_0 (io), C11 IO_L95P_0/GCLK6S (io), C21 IO_L01N_2 (io), C22 IO_L01P_2 (io), D6 IO_L04N_0/VREF_0 (io), D7 NC, D8 NC, D9 IO_L52N_0 (io), D10 IO_L92N_0 (io), D11 IO_L95N_0/GCLK7P (io), D21 IO_L03N_2 (io), D22 IO_L03P_2/VREF_2 (io), E7 IO_L06N_0 (io), E8 IO_L06P_0 (io), E9 IO_L51N_0 (io), E10 IO_L91N_0/VREF_0 (io), E11 IO_L94N_0/VREF_0 (io), E18 IO_L02N_2/VRP_2 (io), E19 IO_L04N_2 (io), E20 IO_L04P_2 (io), E21 IO_L06N_2 (io), E22 IO_L06P_2 (io), F7 VCCO_0 (power), F8 VCCO_0 (power), F9 IO_L51P_0/VREF_0 (io), F10 IO_L91P_0 (io), F11 IO_L94P_0 (io), F18 IO_L02P_2/VRN_2 (io), F19 NC, F20 NC, F21 NC, F22 NC, G9 VCCO_0 (power), G10 VCCO_0 (power), G11 VCCO_0 (power), G17 VCCO_2 (power), G18 NC, G19 NC, G20 NC, G21 IO_L43N_2 (io), G22 IO_L43P_2 (io), H17 VCCO_2 (power), H18 NC, H19 IO_L45N_2 (io), H20 IO_L45P_2/VREF_2 (io), H21 IO_L46N_2 (io), H22 IO_L46P_2 (io), J16 VCCO_2 (power), J17 IO_L48N_2 (io), J18 IO_L48P_2 (io), J19 IO_L49N_2 (io), J20 IO_L49P_2 (io), J21 IO_L51N_2 (io), J22 IO_L51P_2/VREF_2 (io), K16 VCCO_2 (power), K17 IO_L52N_2 (io), K18 IO_L52P_2 (io), K19 IO_L54N_2 (io), K20 IO_L54P_2 (io), K21 IO_L91N_2 (io), K22 IO_L91P_2 (io), L16 VCCO_2 (power), L17 IO_L93N_2 (io), L18 IO_L93P_2/VREF_2 (io), L19 IO_L94N_2 (io), L20 IO_L94P_2 (io), L21 IO_L96N_2 (io), L22 IO_L96P_2 (io), M1 IO_L96N_6 (io), M2 IO_L96P_6 (io), M3 IO_L94N_6 (io), M4 IO_L94P_6 (io), M5 IO_L93N_6/VREF_6 (io), M6 IO_L93P_6 (io), M7 VCCO_6 (power), N1 IO_L91N_6 (io), N2 IO_L91P_6 (io), N3 IO_L54N_6 (io), N4 IO_L54P_6 (io), N5 IO_L52N_6 (io), N6 IO_L52P_6 (io), N7 VCCO_6 (power), P1 IO_L51N_6/VREF_6 (io), P2 IO_L51P_6 (io), P3 IO_L49N_6 (io), P4 IO_L49P_6 (io), P5 IO_L48N_6 (io), P6 IO_L48P_6 (io), P7 VCCO_6 (power), R1 IO_L46N_6 (io), R2 IO_L46P_6 (io), R3 IO_L45N_6/VREF_6 (io), R4 IO_L45P_6 (io), R5 NC, R6 VCCO_6 (power), T1 IO_L43N_6 (io), T2 IO_L43P_6 (io), T3 NC, T4 NC, T5 NC, T6 VCCO_6 (power), T12 VCCO_4 (power), T13 VCCO_4 (power), T14 VCCO_4 (power), U1 NC, U2 NC, U3 IO_L06N_6 (io), U4 IO_L06P_6 (io), U5 IO_L01N_6 (io), U12 IO_L94N_4/VREF_4 (io), U13 IO_L91N_4/VREF_4 (io), U14 IO_L51N_4 (io), U15 VCCO_4 (power), U16 VCCO_4 (power), V1 NC, V2 NC, V3 IO_L03N_6/VREF_6 (io), V4 IO_L03P_6 (io), V5 IO_L01P_6 (io), V12 IO_L94P_4 (io), V13 IO_L91P_4 (io), V14 IO_L51P_4/VREF_4 (io), V15 NC, V16 NC, V17 IO_L02P_4/D1 (io), V18 IO_L02N_4/D0 (io), W1 IO_L04N_6 (io), W2 IO_L04P_6 (io), W12 IO_L95N_4/GCLK3S (io), W13 IO_L92N_4 (io), W14 IO_L52N_4 (io), W15 NC, W16 NC, W17 IO_L05N_4/VRP_4 (io), W18 IO_L03N_4/D2/ALT_VRP_4 (io), Y1 IO_L02N_6/VRP_6 (io), Y2 IO_L02P_6/VRN_6 (io), Y12 IO_L95P_4/GCLK2P (io), Y13 IO_L92P_4 (io), Y14 IO_L52P_4 (io), Y15 NC, Y16 NC, Y17 IO_L05P_4/VRN_4 (io), Y18 IO_L03P_4/D3/ALT_VRN_4 (io)
part C pins: A1 GND (power), A2 PROG_B (in), A3 DXP, A12 VCCAUX (power), A20 RSVD, A21 VBATT (power), A22 GND (power), AA1 VCCAUX (power), AA2 GND (power), AA21 GND (power), AA22 VCCAUX (power), AB1 GND (power), AB2 M0 (in), AB3 M2 (in), AB11 VCCAUX (power), AB20 DONE (io), AB21 PWRDWN_B (in), AB22 GND (power), B1 VCCAUX (power), B2 GND (power), B3 HSWAP_EN (in), B20 TMS (in), B21 GND (power), B22 VCCAUX (power), C3 GND (power), C19 TCK (in), C20 GND (power), D3 TDI (in), D4 GND (power), D5 DXN, D19 GND (power), D20 TDO (out), F6 VCCINT (power), F17 VCCINT (power), G7 VCCINT (power), G8 VCCINT (power), G15 VCCINT (power), G16 VCCINT (power), H7 VCCINT (power), H16 VCCINT (power), J9 GND (power), J10 GND (power), J11 GND (power), J12 GND (power), J13 GND (power), J14 GND (power), K9 GND (power), K10 GND (power), K11 GND (power), K12 GND (power), K13 GND (power), K14 GND (power), L1 VCCAUX (power), L9 GND (power), L10 GND (power), L11 GND (power), L12 GND (power), L13 GND (power), L14 GND (power), M9 GND (power), M10 GND (power), M11 GND (power), M12 GND (power), M13 GND (power), M14 GND (power), M22 VCCAUX (power), N9 GND (power), N10 GND (power), N11 GND (power), N12 GND (power), N13 GND (power), N14 GND (power), P9 GND (power), P10 GND (power), P11 GND (power), P12 GND (power), P13 GND (power), P14 GND (power), R7 VCCINT (power), R16 VCCINT (power), T7 VCCINT (power), T8 VCCINT (power), T15 VCCINT (power), T16 VCCINT (power), U6 VCCINT (power), U17 VCCINT (power), W3 M1 (in), W4 GND (power), W19 GND (power), Y3 GND (power), Y19 CCLK (io), Y20 GND (power)
part A text: BANK 1; BANK 7; BANK 3; BANK 5
part B text: BANK 0; BANK 6; BANK 2; BANK 4

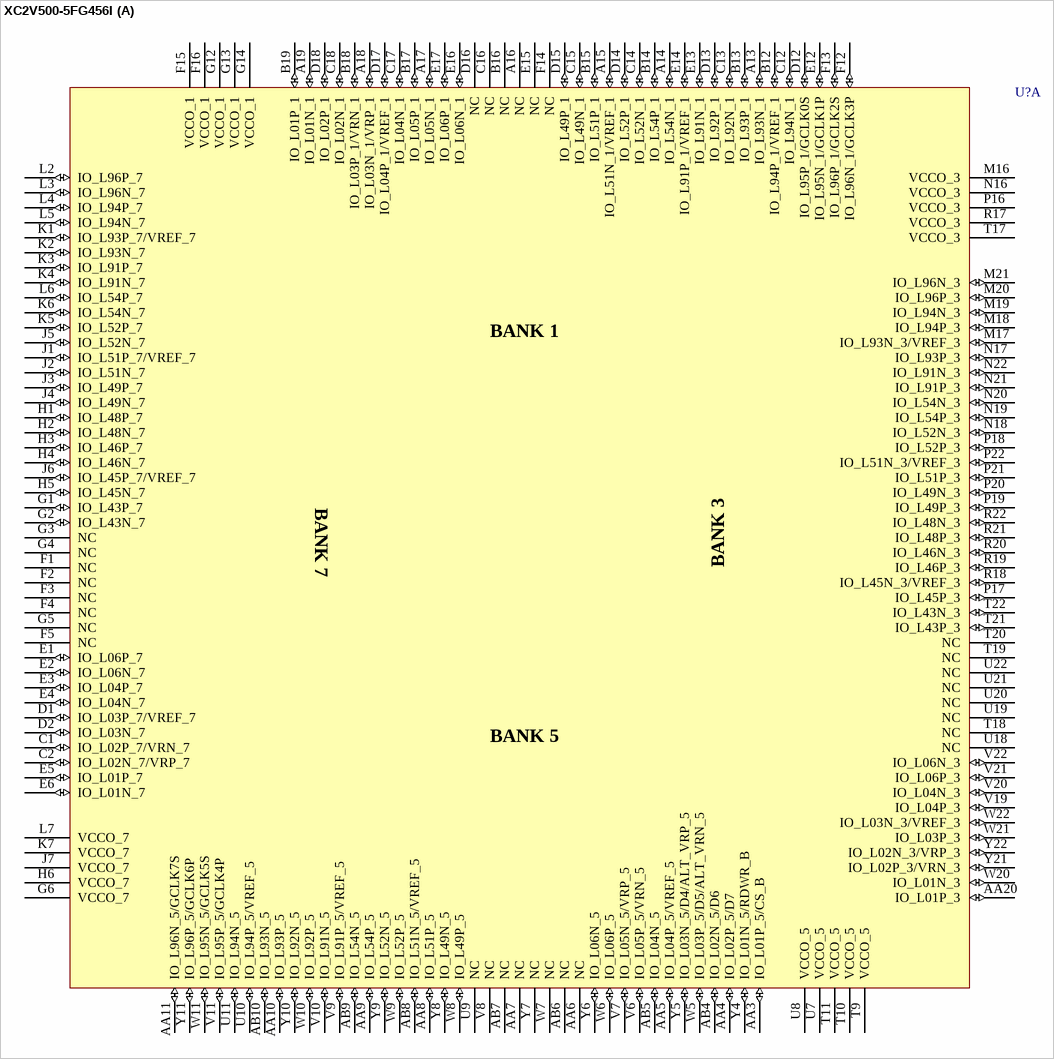
[diagram p45: symbol XC2V500-5FG456I]

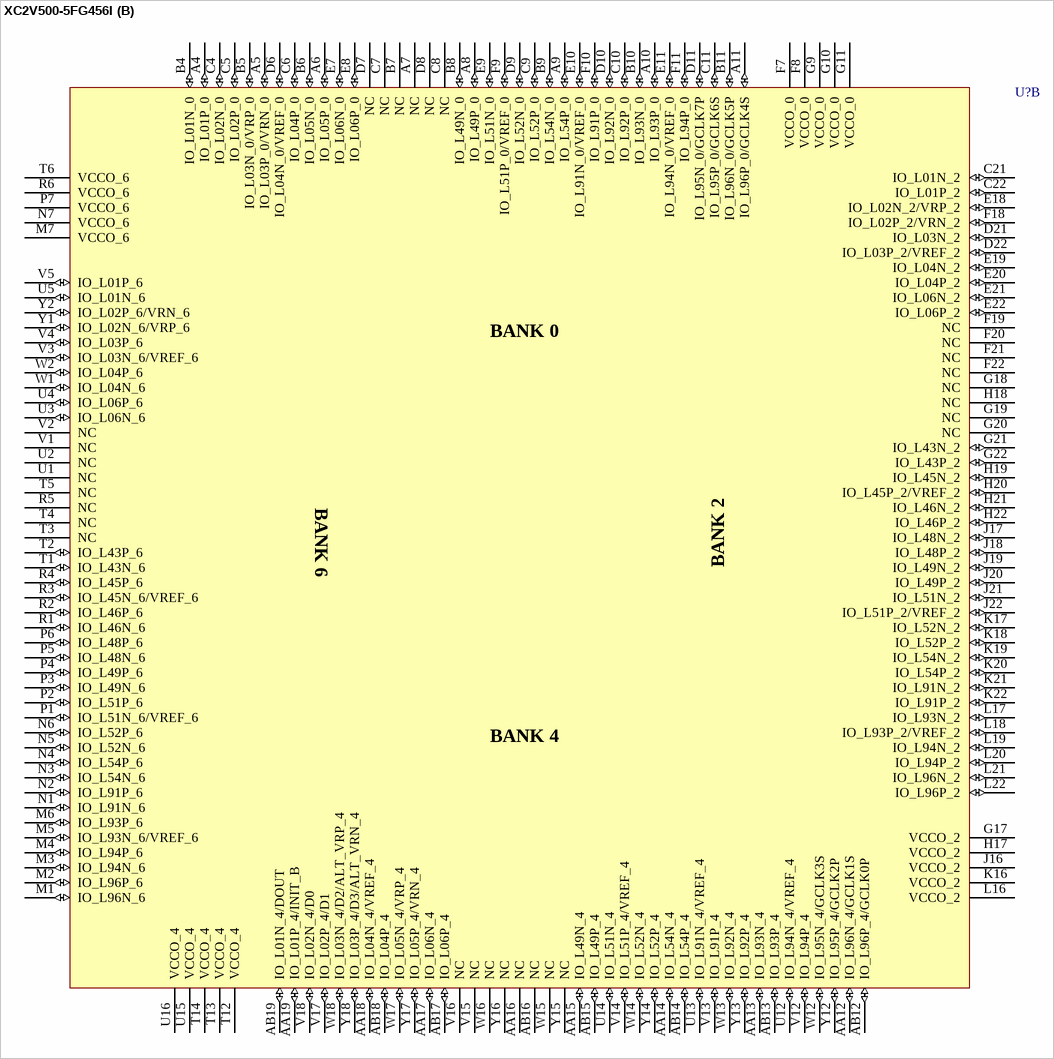
[diagram p46: symbol XC2V500-5FG456I]

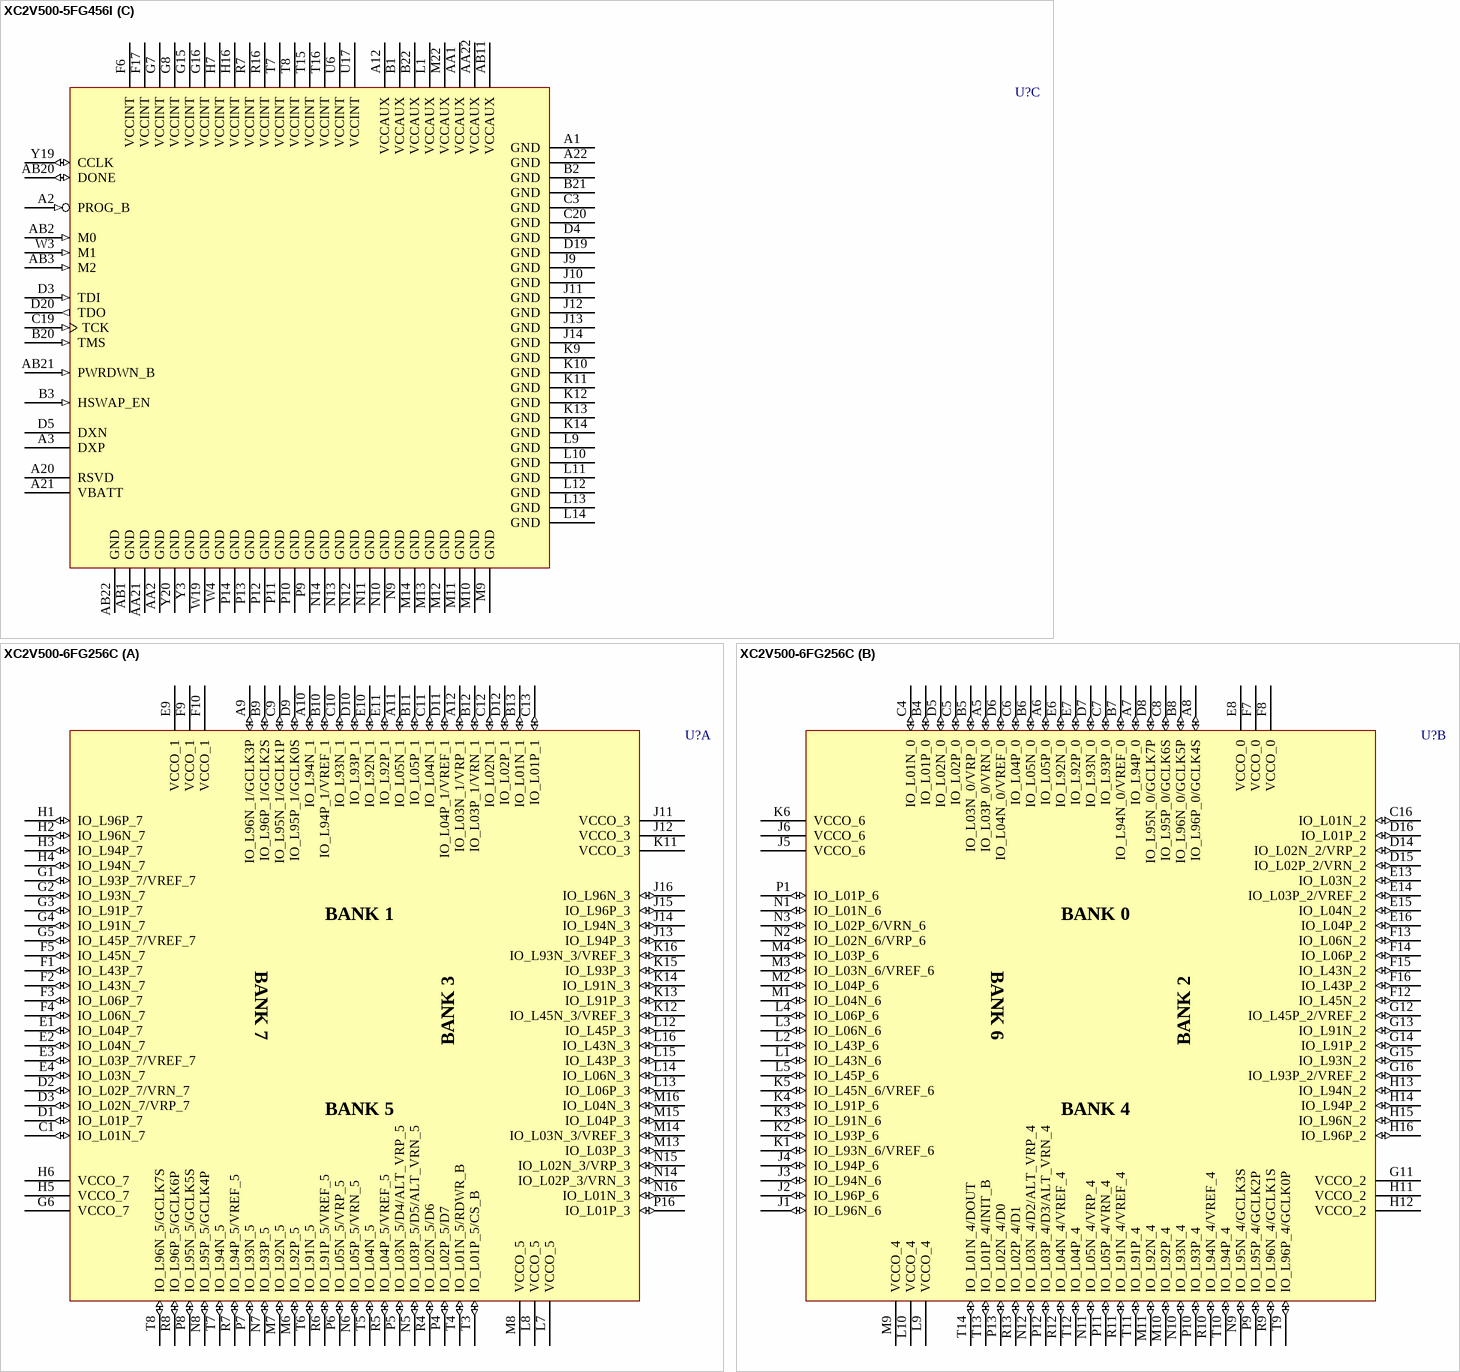
[diagram p47: symbols XC2V500-5FG456I to XC2V500-6FG256C]

## XC2V500-5FG456I
designator U?
Virtex-II 1.5V FPGA, 456-Ball FBGA, Industrial Grade; PackageDocument: ver1.1, Apr-2001; Published: 15-Apr-2002; DatasheetDocument: Mar-2004; PackageReference: FG456; Publisher: Altium Limited; Code_JEDEC: MO-151-AAJ-1
footprint FG456 (456-Ball Fine Pitch Ball Grid Array (FG456))
3D model XC2V500-FG456 (456-Ball Fine Pitch Ball Grid Array (FG456))
signal-integrity model XC2V500_FG456 (Virtex-II)
part A pins: A13 IO_L93N_1 (io), A14 IO_L54N_1 (io), A15 IO_L51N_1/VREF_1 (io), A16 NC, A17 IO_L05N_1 (io), A18 IO_L03N_1/VRP_1 (io), A19 IO_L01N_1 (io), AA3 IO_L01P_5/CS_B (io), AA4 IO_L02P_5/D7 (io), AA5 IO_L04P_5/VREF_5 (io), AA6 NC, AA7 NC, AA8 IO_L51P_5 (io), AA9 IO_L54P_5 (io), AA10 IO_L93P_5 (io), AA11 IO_L96N_5/GCLK7S (io), AA20 IO_L01P_3 (io), AB4 IO_L02N_5/D6 (io), AB5 IO_L04N_5 (io), AB6 NC, AB7 NC, AB8 IO_L51N_5/VREF_5 (io), AB9 IO_L54N_5 (io), AB10 IO_L93N_5 (io), B12 IO_L94P_1/VREF_1 (io), B13 IO_L93P_1 (io), B14 IO_L54P_1 (io), B15 IO_L51P_1 (io), B16 NC, B17 IO_L05P_1 (io), B18 IO_L03P_1/VRN_1 (io), B19 IO_L01P_1 (io), C1 IO_L02P_7/VRN_7 (io), C2 IO_L02N_7/VRP_7 (io), C12 IO_L94N_1 (io), C13 IO_L92N_1 (io), C14 IO_L52N_1 (io), C15 IO_L49N_1 (io), C16 NC, C17 IO_L04N_1 (io), C18 IO_L02N_1 (io), D1 IO_L03P_7/VREF_7 (io), D2 IO_L03N_7 (io), D12 IO_L95P_1/GCLK0S (io), D13 IO_L92P_1 (io), D14 IO_L52P_1 (io), D15 IO_L49P_1 (io), D16 NC, D17 IO_L04P_1/VREF_1 (io), D18 IO_L02P_1 (io), E1 IO_L06P_7 (io), E2 IO_L06N_7 (io), E3 IO_L04P_7 (io), E4 IO_L04N_7 (io), E5 IO_L01P_7 (io), E6 IO_L01N_7 (io), E12 IO_L95N_1/GCLK1P (io), E13 IO_L91N_1 (io), E14 IO_L91P_1/VREF_1 (io), E15 NC, E16 IO_L06N_1 (io), E17 IO_L06P_1 (io), F1 NC, F2 NC, F3 NC, F4 NC, F5 NC, F12 IO_L96N_1/GCLK3P (io), F13 IO_L96P_1/GCLK2S (io), F14 NC, F15 VCCO_1 (power), F16 VCCO_1 (power), G1 IO_L43P_7 (io), G2 IO_L43N_7 (io), G3 NC, G4 NC, G5 NC, G6 VCCO_7 (power), G12 VCCO_1 (power), G13 VCCO_1 (power), G14 VCCO_1 (power), H1 IO_L48P_7 (io), H2 IO_L48N_7 (io), H3 IO_L46P_7 (io), H4 IO_L46N_7 (io), H5 IO_L45N_7 (io), H6 VCCO_7 (power), J1 IO_L51P_7/VREF_7 (io), J2 IO_L51N_7 (io), J3 IO_L49P_7 (io), J4 IO_L49N_7 (io), J5 IO_L52N_7 (io), J6 IO_L45P_7/VREF_7 (io), J7 VCCO_7 (power), K1 IO_L93P_7/VREF_7 (io), K2 IO_L93N_7 (io), K3 IO_L91P_7 (io), K4 IO_L91N_7 (io), K5 IO_L52P_7 (io), K6 IO_L54N_7 (io), K7 VCCO_7 (power), L2 IO_L96P_7 (io), L3 IO_L96N_7 (io), L4 IO_L94P_7 (io), L5 IO_L94N_7 (io), L6 IO_L54P_7 (io), L7 VCCO_7 (power), M16 VCCO_3 (power), M17 IO_L93N_3/VREF_3 (io), M18 IO_L94P_3 (io), M19 IO_L94N_3 (io), M20 IO_L96P_3 (io), M21 IO_L96N_3 (io), N16 VCCO_3 (power), N17 IO_L93P_3 (io), N18 IO_L52N_3 (io), N19 IO_L54P_3 (io), N20 IO_L54N_3 (io), N21 IO_L91P_3 (io), N22 IO_L91N_3 (io), P16 VCCO_3 (power), P17 IO_L45P_3 (io), P18 IO_L52P_3 (io), P19 IO_L49P_3 (io), P20 IO_L49N_3 (io), P21 IO_L51P_3 (io), P22 IO_L51N_3/VREF_3 (io), R17 VCCO_3 (power), R18 IO_L45N_3/VREF_3 (io), R19 IO_L46P_3 (io), R20 IO_L46N_3 (io), R21 IO_L48P_3 (io), R22 IO_L48N_3 (io), T9 VCCO_5 (power), T10 VCCO_5 (power), T11 VCCO_5 (power), T17 VCCO_3 (power), T18 NC, T19 NC, T20 NC, T21 IO_L43P_3 (io), T22 IO_L43N_3 (io), U7 VCCO_5 (power), U8 VCCO_5 (power), U9 NC, U10 IO_L94P_5/VREF_5 (io), U11 IO_L94N_5 (io), U18 NC, U19 NC, U20 NC, U21 NC, U22 NC, V6 IO_L05P_5/VRN_5 (io), V7 IO_L05N_5/VRP_5 (io), V8 NC, V9 IO_L91P_5/VREF_5 (io), V10 IO_L91N_5 (io), V11 IO_L95P_5/GCLK4P (io), V19 IO_L04P_3 (io), V20 IO_L04N_3 (io), V21 IO_L06P_3 (io), V22 IO_L06N_3 (io), W5 IO_L03P_5/D5/ALT_VRN_5 (io), W6 IO_L06P_5 (io), W7 NC, W8 IO_L49P_5 (io), W9 IO_L52P_5 (io), W10 IO_L92P_5 (io), W11 IO_L95N_5/GCLK5S (io), W20 IO_L01N_3 (io), W21 IO_L03P_3 (io), W22 IO_L03N_3/VREF_3 (io), Y4 IO_L01N_5/RDWR_B (io), Y5 IO_L03N_5/D4/ALT_VRP_5 (io), Y6 IO_L06N_5 (io), Y7 NC, Y8 IO_L49N_5 (io), Y9 IO_L52N_5 (io), Y10 IO_L92N_5 (io), Y11 IO_L96P_5/GCLK6P (io), Y21 IO_L02P_3/VRN_3 (io), Y22 IO_L02N_3/VRP_3 (io)
part B pins: A4 IO_L01P_0 (io), A5 IO_L03P_0/VRN_0 (io), A6 IO_L05P_0 (io), A7 NC, A8 IO_L49P_0 (io), A9 IO_L54P_0 (io), A10 IO_L93P_0 (io), A11 IO_L96P_0/GCLK4S (io), AA12 IO_L96N_4/GCLK1S (io), AA13 IO_L93N_4 (io), AA14 IO_L54N_4 (io), AA15 IO_L49N_4 (io), AA16 NC, AA17 IO_L06N_4 (io), AA18 IO_L04N_4/VREF_4 (io), AA19 IO_L01P_4/INIT_B (io), AB12 IO_L96P_4/GCLK0P (io), AB13 IO_L93P_4 (io), AB14 IO_L54P_4 (io), AB15 IO_L49P_4 (io), AB16 NC, AB17 IO_L06P_4 (io), AB18 IO_L04P_4 (io), AB19 IO_L01N_4/DOUT (io), B4 IO_L01N_0 (io), B5 IO_L03N_0/VRP_0 (io), B6 IO_L05N_0 (io), B7 NC, B8 IO_L49N_0 (io), B9 IO_L54N_0 (io), B10 IO_L93N_0 (io), B11 IO_L96N_0/GCLK5P (io), C4 IO_L02N_0 (io), C5 IO_L02P_0 (io), C6 IO_L04P_0 (io), C7 NC, C8 NC, C9 IO_L52P_0 (io), C10 IO_L92P_0 (io), C11 IO_L95P_0/GCLK6S (io), C21 IO_L01N_2 (io), C22 IO_L01P_2 (io), D6 IO_L04N_0/VREF_0 (io), D7 NC, D8 NC, D9 IO_L52N_0 (io), D10 IO_L92N_0 (io), D11 IO_L95N_0/GCLK7P (io), D21 IO_L03N_2 (io), D22 IO_L03P_2/VREF_2 (io), E7 IO_L06N_0 (io), E8 IO_L06P_0 (io), E9 IO_L51N_0 (io), E10 IO_L91N_0/VREF_0 (io), E11 IO_L94N_0/VREF_0 (io), E18 IO_L02N_2/VRP_2 (io), E19 IO_L04N_2 (io), E20 IO_L04P_2 (io), E21 IO_L06N_2 (io), E22 IO_L06P_2 (io), F7 VCCO_0 (power), F8 VCCO_0 (power), F9 IO_L51P_0/VREF_0 (io), F10 IO_L91P_0 (io), F11 IO_L94P_0 (io), F18 IO_L02P_2/VRN_2 (io), F19 NC, F20 NC, F21 NC, F22 NC, G9 VCCO_0 (power), G10 VCCO_0 (power), G11 VCCO_0 (power), G17 VCCO_2 (power), G18 NC, G19 NC, G20 NC, G21 IO_L43N_2 (io), G22 IO_L43P_2 (io), H17 VCCO_2 (power), H18 NC, H19 IO_L45N_2 (io), H20 IO_L45P_2/VREF_2 (io), H21 IO_L46N_2 (io), H22 IO_L46P_2 (io), J16 VCCO_2 (power), J17 IO_L48N_2 (io), J18 IO_L48P_2 (io), J19 IO_L49N_2 (io), J20 IO_L49P_2 (io), J21 IO_L51N_2 (io), J22 IO_L51P_2/VREF_2 (io), K16 VCCO_2 (power), K17 IO_L52N_2 (io), K18 IO_L52P_2 (io), K19 IO_L54N_2 (io), K20 IO_L54P_2 (io), K21 IO_L91N_2 (io), K22 IO_L91P_2 (io), L16 VCCO_2 (power), L17 IO_L93N_2 (io), L18 IO_L93P_2/VREF_2 (io), L19 IO_L94N_2 (io), L20 IO_L94P_2 (io), L21 IO_L96N_2 (io), L22 IO_L96P_2 (io), M1 IO_L96N_6 (io), M2 IO_L96P_6 (io), M3 IO_L94N_6 (io), M4 IO_L94P_6 (io), M5 IO_L93N_6/VREF_6 (io), M6 IO_L93P_6 (io), M7 VCCO_6 (power), N1 IO_L91N_6 (io), N2 IO_L91P_6 (io), N3 IO_L54N_6 (io), N4 IO_L54P_6 (io), N5 IO_L52N_6 (io), N6 IO_L52P_6 (io), N7 VCCO_6 (power), P1 IO_L51N_6/VREF_6 (io), P2 IO_L51P_6 (io), P3 IO_L49N_6 (io), P4 IO_L49P_6 (io), P5 IO_L48N_6 (io), P6 IO_L48P_6 (io), P7 VCCO_6 (power), R1 IO_L46N_6 (io), R2 IO_L46P_6 (io), R3 IO_L45N_6/VREF_6 (io), R4 IO_L45P_6 (io), R5 NC, R6 VCCO_6 (power), T1 IO_L43N_6 (io), T2 IO_L43P_6 (io), T3 NC, T4 NC, T5 NC, T6 VCCO_6 (power), T12 VCCO_4 (power), T13 VCCO_4 (power), T14 VCCO_4 (power), U1 NC, U2 NC, U3 IO_L06N_6 (io), U4 IO_L06P_6 (io), U5 IO_L01N_6 (io), U12 IO_L94N_4/VREF_4 (io), U13 IO_L91N_4/VREF_4 (io), U14 IO_L51N_4 (io), U15 VCCO_4 (power), U16 VCCO_4 (power), V1 NC, V2 NC, V3 IO_L03N_6/VREF_6 (io), V4 IO_L03P_6 (io), V5 IO_L01P_6 (io), V12 IO_L94P_4 (io), V13 IO_L91P_4 (io), V14 IO_L51P_4/VREF_4 (io), V15 NC, V16 NC, V17 IO_L02P_4/D1 (io), V18 IO_L02N_4/D0 (io), W1 IO_L04N_6 (io), W2 IO_L04P_6 (io), W12 IO_L95N_4/GCLK3S (io), W13 IO_L92N_4 (io), W14 IO_L52N_4 (io), W15 NC, W16 NC, W17 IO_L05N_4/VRP_4 (io), W18 IO_L03N_4/D2/ALT_VRP_4 (io), Y1 IO_L02N_6/VRP_6 (io), Y2 IO_L02P_6/VRN_6 (io), Y12 IO_L95P_4/GCLK2P (io), Y13 IO_L92P_4 (io), Y14 IO_L52P_4 (io), Y15 NC, Y16 NC, Y17 IO_L05P_4/VRN_4 (io), Y18 IO_L03P_4/D3/ALT_VRN_4 (io)
part C pins: A1 GND (power), A2 PROG_B (in), A3 DXP, A12 VCCAUX (power), A20 RSVD, A21 VBATT (power), A22 GND (power), AA1 VCCAUX (power), AA2 GND (power), AA21 GND (power), AA22 VCCAUX (power), AB1 GND (power), AB2 M0 (in), AB3 M2 (in), AB11 VCCAUX (power), AB20 DONE (io), AB21 PWRDWN_B (in), AB22 GND (power), B1 VCCAUX (power), B2 GND (power), B3 HSWAP_EN (in), B20 TMS (in), B21 GND (power), B22 VCCAUX (power), C3 GND (power), C19 TCK (in), C20 GND (power), D3 TDI (in), D4 GND (power), D5 DXN, D19 GND (power), D20 TDO (out), F6 VCCINT (power), F17 VCCINT (power), G7 VCCINT (power), G8 VCCINT (power), G15 VCCINT (power), G16 VCCINT (power), H7 VCCINT (power), H16 VCCINT (power), J9 GND (power), J10 GND (power), J11 GND (power), J12 GND (power), J13 GND (power), J14 GND (power), K9 GND (power), K10 GND (power), K11 GND (power), K12 GND (power), K13 GND (power), K14 GND (power), L1 VCCAUX (power), L9 GND (power), L10 GND (power), L11 GND (power), L12 GND (power), L13 GND (power), L14 GND (power), M9 GND (power), M10 GND (power), M11 GND (power), M12 GND (power), M13 GND (power), M14 GND (power), M22 VCCAUX (power), N9 GND (power), N10 GND (power), N11 GND (power), N12 GND (power), N13 GND (power), N14 GND (power), P9 GND (power), P10 GND (power), P11 GND (power), P12 GND (power), P13 GND (power), P14 GND (power), R7 VCCINT (power), R16 VCCINT (power), T7 VCCINT (power), T8 VCCINT (power), T15 VCCINT (power), T16 VCCINT (power), U6 VCCINT (power), U17 VCCINT (power), W3 M1 (in), W4 GND (power), W19 GND (power), Y3 GND (power), Y19 CCLK (io), Y20 GND (power)
part A text: BANK 1; BANK 7; BANK 3; BANK 5
part B text: BANK 0; BANK 6; BANK 2; BANK 4

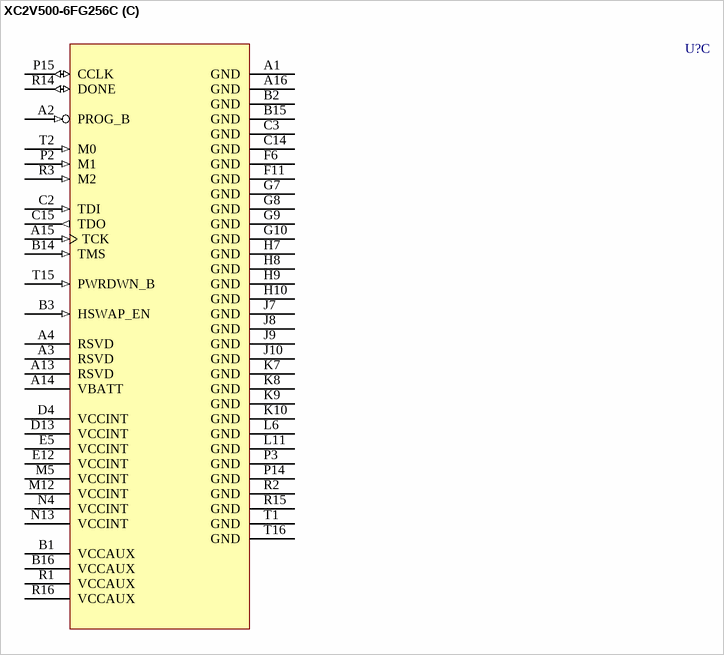
[diagram p48: symbol XC2V500-6FG256C]

## XC2V500-6FG256C
designator U?
Virtex-II 1.5V FPGA, 256-Ball FBGA, Commercial Grade; PackageDocument: ver1.1, Apr-2001; Published: 15-Apr-2002; DatasheetDocument: Mar-2004; PackageReference: FG256; Publisher: Altium Limited; Code_JEDEC: MO-151-AAF-1; Code_IPC: PBGA 17X17 FE256
footprint FG256 (256-Ball Fine Pitch Ball Grid Array (FG256))
3D model XC2V500-FG256 (256-Ball Fine Pitch Ball Grid Array (FG256))
signal-integrity model XC2V500_FG256 (Virtex-II)
part A pins: A9 IO_L96N_1/GCLK3P (io), A10 IO_L94N_1 (io), A11 IO_L05N_1 (io), A12 IO_L03N_1/VRP_1 (io), B9 IO_L96P_1/GCLK2S (io), B10 IO_L94P_1/VREF_1 (io), B11 IO_L05P_1 (io), B12 IO_L03P_1/VRN_1 (io), B13 IO_L01N_1 (io), C1 IO_L01N_7 (io), C9 IO_L95N_1/GCLK1P (io), C10 IO_L93N_1 (io), C11 IO_L04N_1 (io), C12 IO_L02N_1 (io), C13 IO_L01P_1 (io), D1 IO_L01P_7 (io), D2 IO_L02P_7/VRN_7 (io), D3 IO_L02N_7/VRP_7 (io), D9 IO_L95P_1/GCLK0S (io), D10 IO_L93P_1 (io), D11 IO_L04P_1/VREF_1 (io), D12 IO_L02P_1 (io), E1 IO_L04P_7 (io), E2 IO_L04N_7 (io), E3 IO_L03P_7/VREF_7 (io), E4 IO_L03N_7 (io), E9 VCCO_1 (power), E10 IO_L92N_1 (io), E11 IO_L92P_1 (io), F1 IO_L43P_7 (io), F2 IO_L43N_7 (io), F3 IO_L06P_7 (io), F4 IO_L06N_7 (io), F5 IO_L45N_7 (io), F9 VCCO_1 (power), F10 VCCO_1 (power), G1 IO_L93P_7/VREF_7 (io), G2 IO_L93N_7 (io), G3 IO_L91P_7 (io), G4 IO_L91N_7 (io), G5 IO_L45P_7/VREF_7 (io), G6 VCCO_7 (power), H1 IO_L96P_7 (io), H2 IO_L96N_7 (io), H3 IO_L94P_7 (io), H4 IO_L94N_7 (io), H5 VCCO_7 (power), H6 VCCO_7 (power), J11 VCCO_3 (power), J12 VCCO_3 (power), J13 IO_L94P_3 (io), J14 IO_L94N_3 (io), J15 IO_L96P_3 (io), J16 IO_L96N_3 (io), K11 VCCO_3 (power), K12 IO_L45N_3/VREF_3 (io), K13 IO_L91P_3 (io), K14 IO_L91N_3 (io), K15 IO_L93P_3 (io), K16 IO_L93N_3/VREF_3 (io), L7 VCCO_5 (power), L8 VCCO_5 (power), L12 IO_L45P_3 (io), L13 IO_L06P_3 (io), L14 IO_L06N_3 (io), L15 IO_L43P_3 (io), L16 IO_L43N_3 (io), M6 IO_L92P_5 (io), M7 IO_L92N_5 (io), M8 VCCO_5 (power), M13 IO_L03P_3 (io), M14 IO_L03N_3/VREF_3 (io), M15 IO_L04P_3 (io), M16 IO_L04N_3 (io), N5 IO_L03P_5/D5/ALT_VRN_5 (io), N6 IO_L05P_5/VRN_5 (io), N7 IO_L93P_5 (io), N8 IO_L95P_5/GCLK4P (io), N14 IO_L02P_3/VRN_3 (io), N15 IO_L02N_3/VRP_3 (io), N16 IO_L01N_3 (io), P4 IO_L02P_5/D7 (io), P5 IO_L03N_5/D4/ALT_VRP_5 (io), P6 IO_L05N_5/VRP_5 (io), P7 IO_L93N_5 (io), P8 IO_L95N_5/GCLK5S (io), P16 IO_L01P_3 (io), R4 IO_L02N_5/D6 (io), R5 IO_L04P_5/VREF_5 (io), R6 IO_L91P_5/VREF_5 (io), R7 IO_L94P_5/VREF_5 (io), R8 IO_L96P_5/GCLK6P (io), T3 IO_L01P_5/CS_B (io), T4 IO_L01N_5/RDWR_B (io), T5 IO_L04N_5 (io), T6 IO_L91N_5 (io), T7 IO_L94N_5 (io), T8 IO_L96N_5/GCLK7S (io)
part B pins: A5 IO_L03P_0/VRN_0 (io), A6 IO_L05P_0 (io), A7 IO_L94P_0 (io), A8 IO_L96P_0/GCLK4S (io), B4 IO_L01P_0 (io), B5 IO_L03N_0/VRP_0 (io), B6 IO_L05N_0 (io), B7 IO_L94N_0/VREF_0 (io), B8 IO_L96N_0/GCLK5P (io), C4 IO_L01N_0 (io), C5 IO_L02P_0 (io), C6 IO_L04P_0 (io), C7 IO_L93P_0 (io), C8 IO_L95P_0/GCLK6S (io), C16 IO_L01N_2 (io), D5 IO_L02N_0 (io), D6 IO_L04N_0/VREF_0 (io), D7 IO_L93N_0 (io), D8 IO_L95N_0/GCLK7P (io), D14 IO_L02N_2/VRP_2 (io), D15 IO_L02P_2/VRN_2 (io), D16 IO_L01P_2 (io), E6 IO_L92N_0 (io), E7 IO_L92P_0 (io), E8 VCCO_0 (power), E13 IO_L03N_2 (io), E14 IO_L03P_2/VREF_2 (io), E15 IO_L04N_2 (io), E16 IO_L04P_2 (io), F7 VCCO_0 (power), F8 VCCO_0 (power), F12 IO_L45N_2 (io), F13 IO_L06N_2 (io), F14 IO_L06P_2 (io), F15 IO_L43N_2 (io), F16 IO_L43P_2 (io), G11 VCCO_2 (power), G12 IO_L45P_2/VREF_2 (io), G13 IO_L91N_2 (io), G14 IO_L91P_2 (io), G15 IO_L93N_2 (io), G16 IO_L93P_2/VREF_2 (io), H11 VCCO_2 (power), H12 VCCO_2 (power), H13 IO_L94N_2 (io), H14 IO_L94P_2 (io), H15 IO_L96N_2 (io), H16 IO_L96P_2 (io), J1 IO_L96N_6 (io), J2 IO_L96P_6 (io), J3 IO_L94N_6 (io), J4 IO_L94P_6 (io), J5 VCCO_6 (power), J6 VCCO_6 (power), K1 IO_L93N_6/VREF_6 (io), K2 IO_L93P_6 (io), K3 IO_L91N_6 (io), K4 IO_L91P_6 (io), K5 IO_L45N_6/VREF_6 (io), K6 VCCO_6 (power), L1 IO_L43N_6 (io), L2 IO_L43P_6 (io), L3 IO_L06N_6 (io), L4 IO_L06P_6 (io), L5 IO_L45P_6 (io), L9 VCCO_4 (power), L10 VCCO_4 (power), M1 IO_L04N_6 (io), M2 IO_L04P_6 (io), M3 IO_L03N_6/VREF_6 (io), M4 IO_L03P_6 (io), M9 VCCO_4 (power), M10 IO_L92P_4 (io), M11 IO_L92N_4 (io), N1 IO_L01N_6 (io), N2 IO_L02N_6/VRP_6 (io), N3 IO_L02P_6/VRN_6 (io), N9 IO_L95N_4/GCLK3S (io), N10 IO_L93N_4 (io), N11 IO_L05N_4/VRP_4 (io), N12 IO_L03N_4/D2/ALT_VRP_4 (io), P1 IO_L01P_6 (io), P9 IO_L95P_4/GCLK2P (io), P10 IO_L93P_4 (io), P11 IO_L05P_4/VRN_4 (io), P12 IO_L03P_4/D3/ALT_VRN_4 (io), P13 IO_L02N_4/D0 (io), R9 IO_L96N_4/GCLK1S (io), R10 IO_L94N_4/VREF_4 (io), R11 IO_L91N_4/VREF_4 (io), R12 IO_L04N_4/VREF_4 (io), R13 IO_L02P_4/D1 (io), T9 IO_L96P_4/GCLK0P (io), T10 IO_L94P_4 (io), T11 IO_L91P_4 (io), T12 IO_L04P_4 (io), T13 IO_L01P_4/INIT_B (io), T14 IO_L01N_4/DOUT (io)
part C pins: A1 GND (power), A2 PROG_B (in), A3 RSVD, A4 RSVD, A13 RSVD, A14 VBATT (power), A15 TCK (in), A16 GND (power), B1 VCCAUX (power), B2 GND (power), B3 HSWAP_EN (in), B14 TMS (in), B15 GND (power), B16 VCCAUX (power), C2 TDI (in), C3 GND (power), C14 GND (power), C15 TDO (out), D4 VCCINT (power), D13 VCCINT (power), E5 VCCINT (power), E12 VCCINT (power), F6 GND (power), F11 GND (power), G7 GND (power), G8 GND (power), G9 GND (power), G10 GND (power), H7 GND (power), H8 GND (power), H9 GND (power), H10 GND (power), J7 GND (power), J8 GND (power), J9 GND (power), J10 GND (power), K7 GND (power), K8 GND (power), K9 GND (power), K10 GND (power), L6 GND (power), L11 GND (power), M5 VCCINT (power), M12 VCCINT (power), N4 VCCINT (power), N13 VCCINT (power), P2 M1 (in), P3 GND (power), P14 GND (power), P15 CCLK (io), R1 VCCAUX (power), R2 GND (power), R3 M2 (in), R14 DONE (io), R15 GND (power), R16 VCCAUX (power), T1 GND (power), T2 M0 (in), T15 PWRDWN_B (in), T16 GND (power)
part A text: BANK 1; BANK 7; BANK 3; BANK 5
part B text: BANK 0; BANK 6; BANK 2; BANK 4

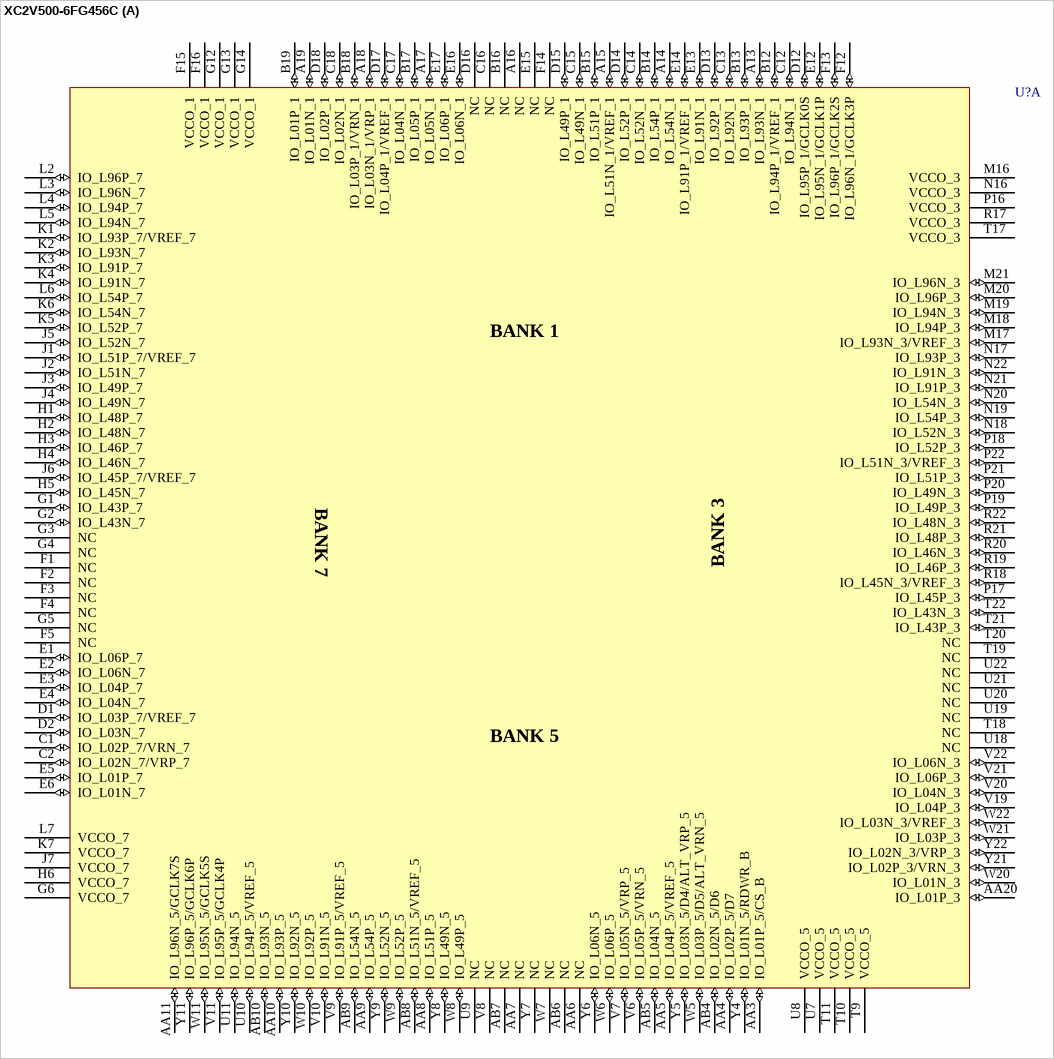
[diagram p49: symbol XC2V500-6FG456C]

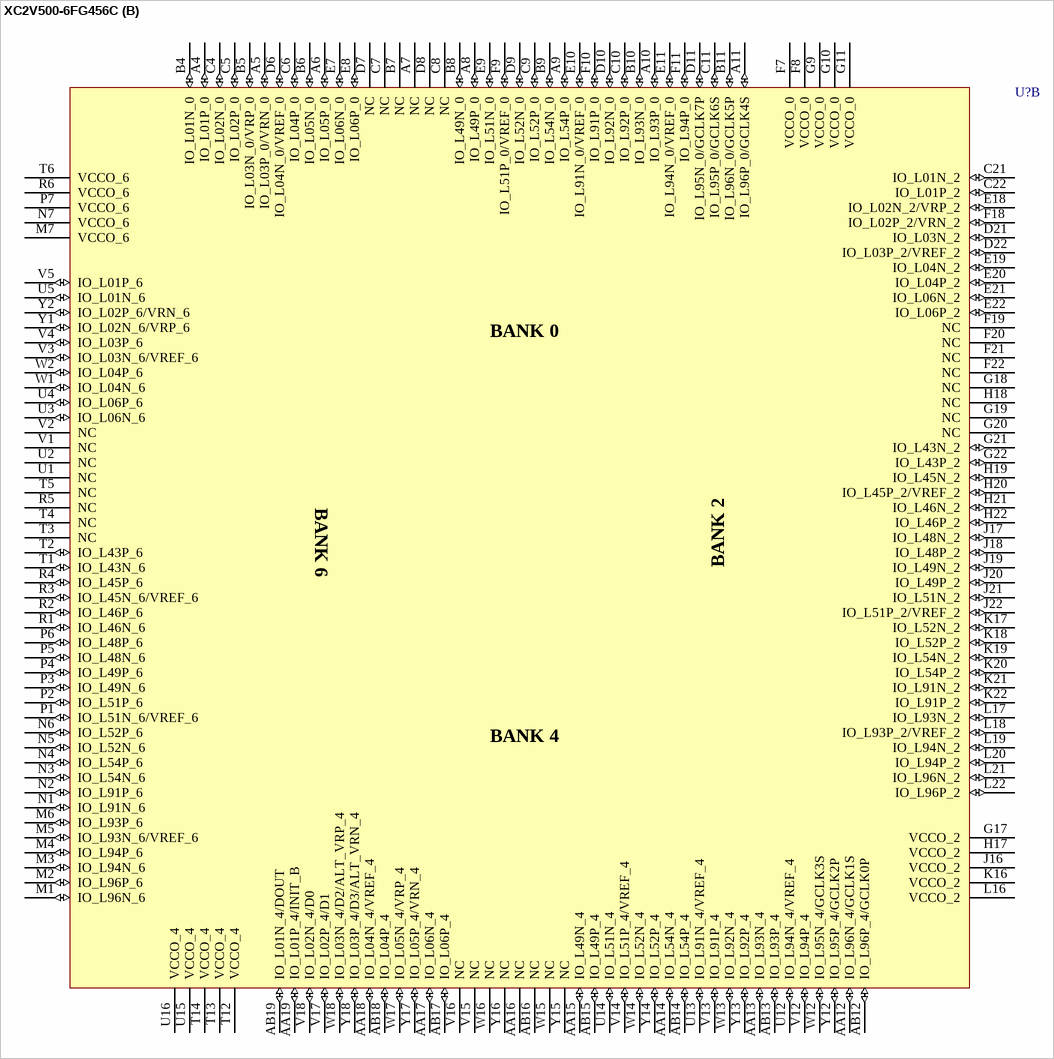
[diagram p50: symbol XC2V500-6FG456C]

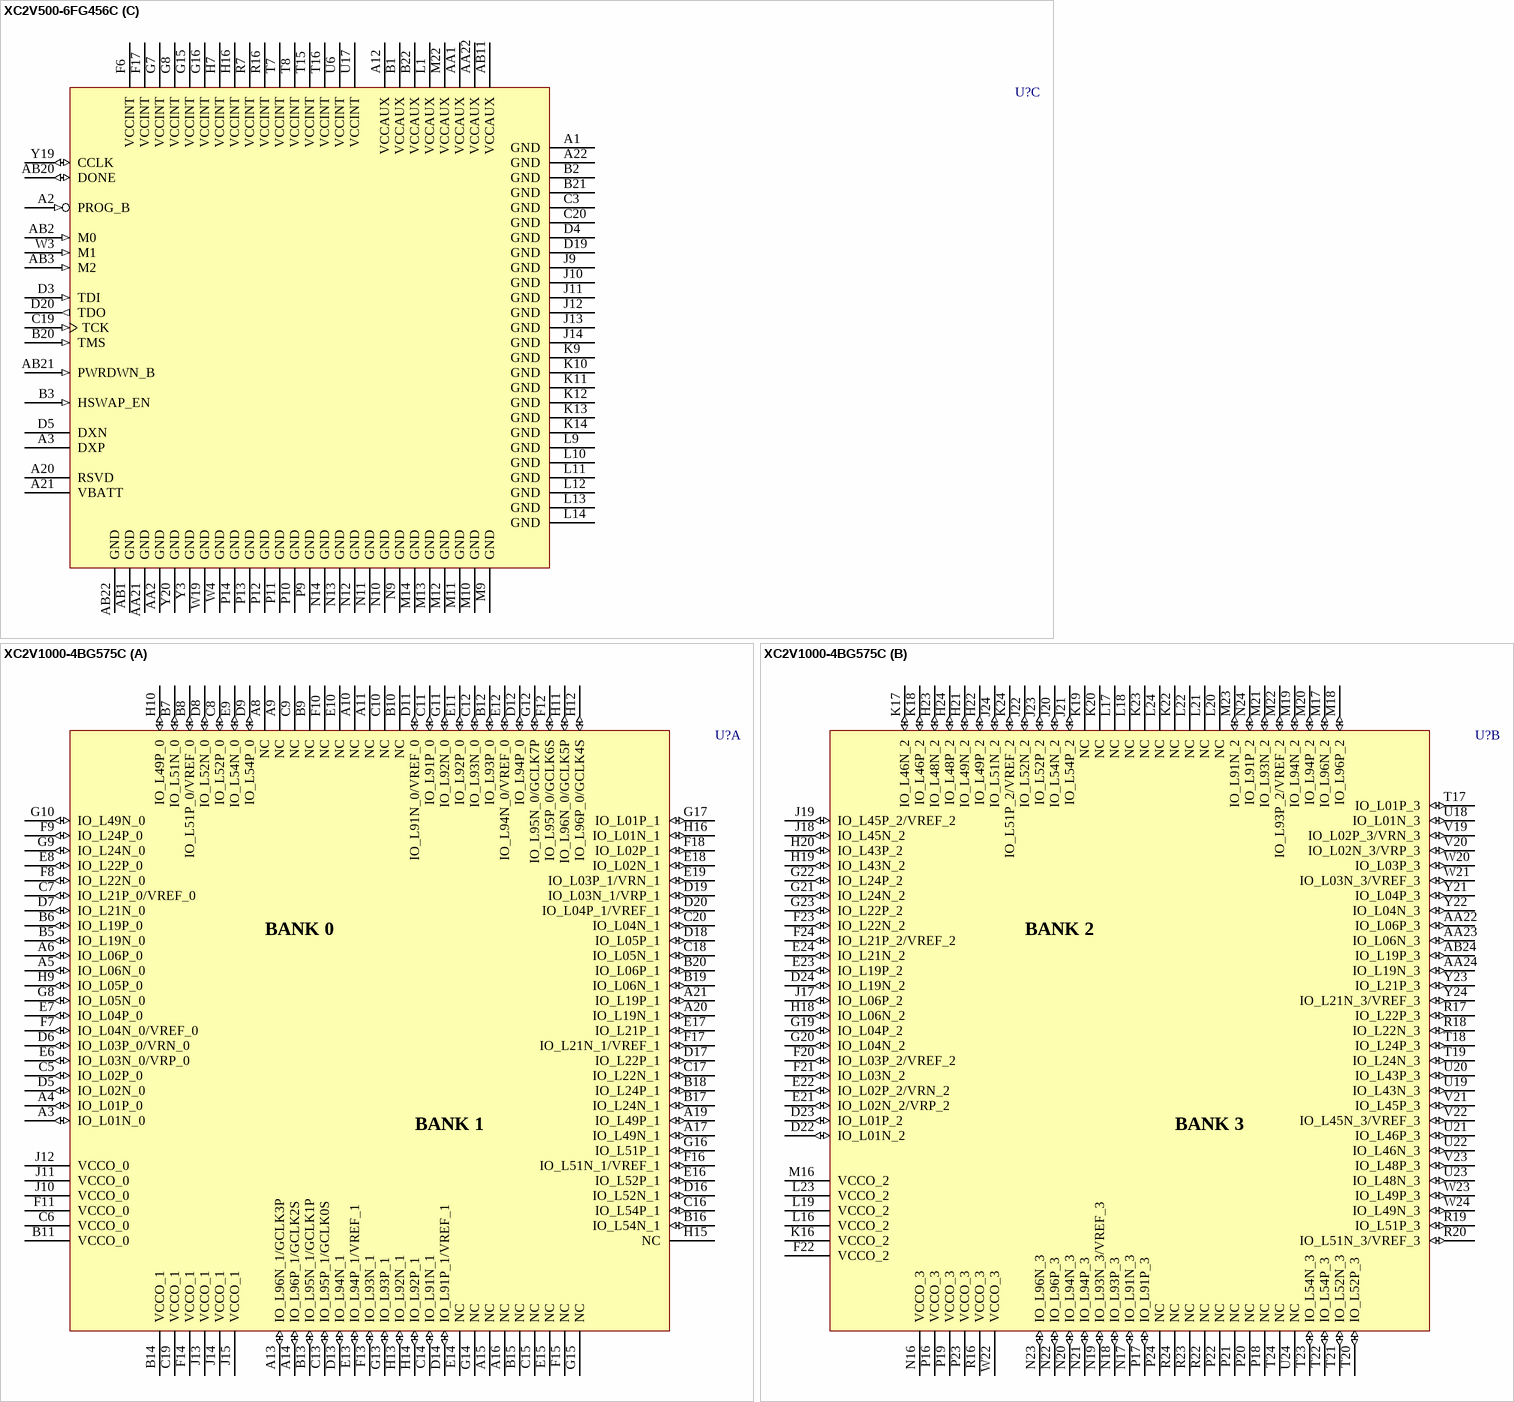
[diagram p51: symbols XC2V500-6FG456C to XC2V1000-4BG575C]